# Altium schematic symbol library BeagleBone-AI_Library.SchLib: 164 symbols (part 9 of 14)
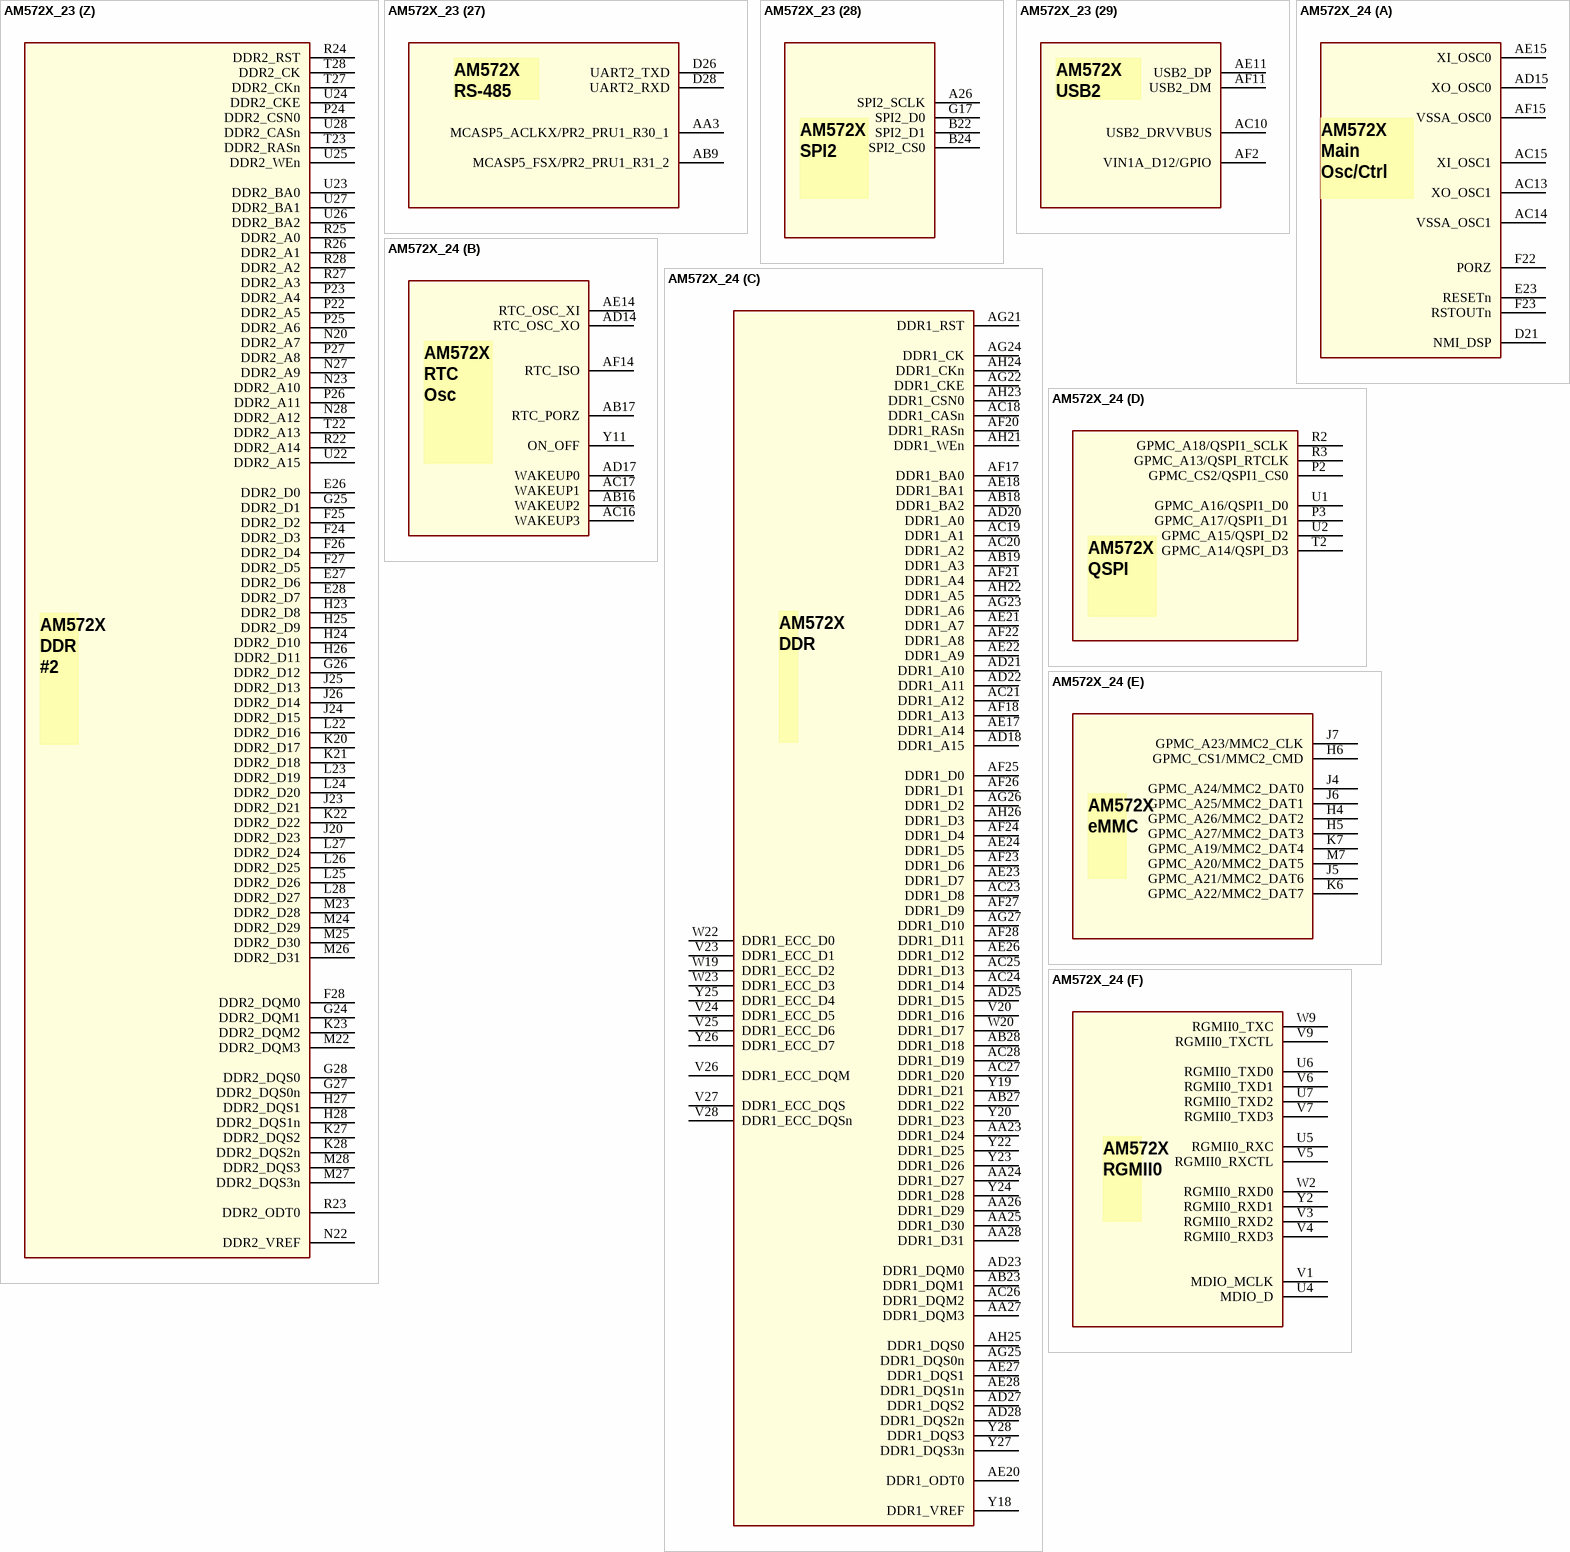
[diagram p169: symbols AM572X_23 to AM572X_24]

## AM572X_23
designator U?
Vendor: TI
footprint BGA23X23-760-117M
part A pins: AC13 XO_OSC1, AC14 VSSA_OSC1 (power), AC15 XI_OSC1, AD15 XO_OSC0, AE15 XI_OSC0, AF15 VSSA_OSC0 (power), D21 NMI_DSP, E23 RESETn, F22 PORZ, F23 RSTOUTn
part B pins: AB16 WAKEUP2, AB17 RTC_PORZ, AC16 WAKEUP3, AC17 WAKEUP1, AD14 RTC_OSC_XO, AD17 WAKEUP0, AE14 RTC_OSC_XI, AF14 RTC_ISO, Y11 ON_OFF
part C pins: AA23 DDR1_D24, AA24 DDR1_D27, AA25 DDR1_D30, AA26 DDR1_D29, AA27 DDR1_DQM3, AA28 DDR1_D31, AB18 DDR1_BA2, AB19 DDR1_A3, AB23 DDR1_DQM1, AB27 DDR1_D22, AB28 DDR1_D18, AC18 DDR1_CASn, AC19 DDR1_A1, AC20 DDR1_A2, AC21 DDR1_A12, AC23 DDR1_D8, AC24 DDR1_D14, AC25 DDR1_D13, AC26 DDR1_DQM2, AC27 DDR1_D20, AC28 DDR1_D19, AD18 DDR1_A15, AD20 DDR1_A0, AD21 DDR1_A10, AD22 DDR1_A11, AD23 DDR1_DQM0, AD25 DDR1_D15, AD27 DDR1_DQS2, AD28 DDR1_DQS2n, AE17 DDR1_A14, AE18 DDR1_BA1, AE20 DDR1_ODT0, AE21 DDR1_A7, AE22 DDR1_A9, AE23 DDR1_D7, AE24 DDR1_D5, AE26 DDR1_D12, AE27 DDR1_DQS1, AE28 DDR1_DQS1n, AF17 DDR1_BA0, AF18 DDR1_A13, AF20 DDR1_RASn, AF21 DDR1_A4, AF22 DDR1_A8, AF23 DDR1_D6, AF24 DDR1_D4, AF25 DDR1_D0, AF26 DDR1_D1, AF27 DDR1_D9, AF28 DDR1_D11, AG21 DDR1_RST, AG22 DDR1_CKE, AG23 DDR1_A6, AG24 DDR1_CK, AG25 DDR1_DQS0n, AG26 DDR1_D2, AG27 DDR1_D10, AH21 DDR1_WEn, AH22 DDR1_A5, AH23 DDR1_CSN0, AH24 DDR1_CKn, AH25 DDR1_DQS0, AH26 DDR1_D3, V20 DDR1_D16, V23 DDR1_ECC_D1, V24 DDR1_ECC_D5, V25 DDR1_ECC_D6, V26 DDR1_ECC_DQM, V27 DDR1_ECC_DQS, V28 DDR1_ECC_DQSn, W19 DDR1_ECC_D2, W20 DDR1_D17, W22 DDR1_ECC_D0, W23 DDR1_ECC_D3, Y18 DDR1_VREF, Y19 DDR1_D21, Y20 DDR1_D23, Y22 DDR1_D25, Y23 DDR1_D26, Y24 DDR1_D28, Y25 DDR1_ECC_D4, Y26 DDR1_ECC_D7, Y27 DDR1_DQS3n, Y28 DDR1_DQS3
part D pins: P2 GPMC_CS2/QSPI1_CS0, P3 GPMC_A17/QSPI1_D1, R2 GPMC_A18/QSPI1_SCLK, R3 GPMC_A13/QSPI_RTCLK, T2 GPMC_A14/QSPI_D3, U1 GPMC_A16/QSPI1_D0, U2 GPMC_A15/QSPI_D2
part E pins: H4 GPMC_A26/MMC2_DAT2, H5 GPMC_A27/MMC2_DAT3, H6 GPMC_CS1/MMC2_CMD, J4 GPMC_A24/MMC2_DAT0, J5 GPMC_A21/MMC2_DAT6, J6 GPMC_A25/MMC2_DAT1, J7 GPMC_A23/MMC2_CLK, K6 GPMC_A22/MMC2_DAT7, K7 GPMC_A19/MMC2_DAT4, M7 GPMC_A20/MMC2_DAT5
part F pins: U4 MDIO_D, U5 RGMII0_RXC, U6 RGMII0_TXD0, U7 RGMII0_TXD2, V1 MDIO_MCLK, V3 RGMII0_RXD2, V4 RGMII0_RXD3, V5 RGMII0_RXCTL, V6 RGMII0_TXD1, V7 RGMII0_TXD3, V9 RGMII0_TXCTL, W2 RGMII0_RXD0, W9 RGMII0_TXC, Y2 RGMII0_RXD1
part G pins: A3 VIN2A_D19/RGMII1_RXCTL, A4 VIN2A_D23/RGMII1_RXD0, B2 VIN2A_D16/RGMII1_TXD1, B3 VIN2A_D20/RGMII1_RXD3, B4 VIN2A_D21/RGMII1_RXD2, B5 VIN2A_D22/RGMII1_RXD1, C2 VIN2A_D13/RGMII1_TXCTL, C3 VIN2A_D14/RGMII1_TXD3, C4 VIN2A_D15/RGMII1_TXD2, C5 VIN2A_D18/RGMII1_RXC, D5 VIN2A_D12/RGMII1_TXC, D6 VIN2A_D17/RGMII1_TXD0
part H pins: AG16 HDMI1_CLOCKX, AG17 HDMI1_DATA0X, AG18 HDMI1_DATA1X, AG19 HDMI1_DATA2X, AH16 HDMI1_CLOCKY, AH17 HDMI1_DATA0Y, AH18 HDMI1_DATA1Y, AH19 HDMI1_DATA2Y, B20 SPI1_CS3/HDMI_CEC, B21 SPI1_CS2/HDMI_HPD, C25 I2C2_SDA/HDMI1_DDC_SCL, F17 I2C2_SCL/HDMI1_DDC_SDA
part I pins: C28 UART2_RTSn/UART3_TXD, D27 UART2_CTSn/UART3_RXD
part J pins: F2 VIN2A_D0/PR1_UART0_RXD, F3 VIN2A_D1/PR1_UART0_TXD, F4 VIN2A_D5/PR1_PRU1_R30_2, U3 RMII50MHZCLK/PR2_GPIO
part K pins: V2 UART3_RXD/PR1_MII0_RXDV, Y1 UART3_TXD/PR1_MII0_MR0CLK
part L pins: C1 VIN2A_D6/PR1_MII_MT1_CLK, D3 VIN2A_D10/PR1_MDIO_MDCLK, E4 VIN2A_D7/PR1_MII1_TXEN, E6 VIN2A_D9/PR1_MII1_TXD2, F5 VIN2A_D8/PR1_MII1_TXD3, F6 VIN2A_D11/PR1_MDIO_DATA
part M pins: A11 MCASP1_AXR9/PR2_MII0_TXD3, A12 MCASP1_AXR11/PR2_MII0_TXD1, A13 MCASP1_AXR13/PR2_MII_MR0_CLK, A16 MCASP2_AXR3/PR2_MII0_RXLINK, A18 MCASP2_FSX/PR2_MII0_RXD1, A19 MCASP2_ACLKX/PR2_MII0_RXD2, B12 MCASP1_AXR8/PR2_MII0_TXEN, B13 MCASP1_AXR10/PR2_MII0_TXD2, B18 MCASP3_ACLKX/PR2_MII0_CRS, C14 MCASP1_ACLKX/PR2_MDIO_MDCLK, C15 MCASP2_AXR2/PR2_MII0_RXD0, D14 MCASP1_FSX/PR2_MDIO_DATA, E14 MCASP1_AXR12/PR2_MII0_TXD0, F12 MCASP1_AXR1/PR2_MII_MT0_CLK, F14 MCASP1_AXR15/PR2_MII0_RXD3, F15 MCASP3_FSX/PR2_MII0_COL, G12 MCASP1_AXR0/PR2_MII0_RXER, G14 MCASP1_AXR14/PR2_MII0_RXDV
part N pins: AB4 GPIO6_11/PR2_MII1_TXEN, AB5 MMC3_DAT7/PR2_MII1_RXD0, AB8 MMC3_DAT6/PR2_MII1_RXD1, AC3 MMC3_DAT3/PR2_MII1_RXDV, AC4 MMC3_CMD/PR2_MII1_TXD2, AC5 GPIO6_10/PR2_MII_MT1_CLK, AC6 MMC3_DAT1/PR2_MII1_TXD0, AC7 MMC3_DAT0/PR2_MII1_TXD1, AC8 MMC3_DAT4/PR2_MII1_RXD3, AC9 MMC3_DAT2/PR2_MII_MR1_CLK, AD4 MMC3_CLK/PR2_MII1_TXD3, AD6 MMC3_DAT5/PR2_MII1_RXD2, B19 MCASP3_AXR0/PR2_MII1_RXER, C17 MCASP3_AXR1/PR2_MII1_RXLINK, D18 XREF_CLK0/PR2_MII1_COL, E17 XREF_CLK1/PR2_MII1_CRS
part O pins: AA5 MMC1_DAT2, AA6 MMC1_DAT0, W6 MMC1_CLK, W7 MMC1_SDCD, Y3 MMC1_DAT3, Y4 MMC1_DAT1, Y6 MMC1_CMD, Y9 MMC1_SDWP
part P pins: AG13 PCIE_RXN0, AG14 PCIE_TXN0, AG15 LJCB_CLKP, AH13 PCIE_RXP0, AH14 PCIE_TXP0, AH15 LJCB_CLKN
part Q pins: AB10 USB1_DRVVBUS, AC11 USB_TXN0, AC12 USB1_DM, AD11 USB_TXP0, AD12 USB1_DP, AE12 USB_RXP0, AF12 USB_RXN0
part R pins: C20 I2C1_SCL, C21 I2C1_SDA
part S pins: D20 TRSTn, D23 TDI, D24 EMU1, E18 RTCK, E20 TCK, F18 TMS, F19 TDO, G21 EMU0
part T pins: A5 VOUT1_D12, A7 VOUT1_D18, A8 VOUT1_D19, A9 VOUT1_D21, A10 VOUT1_D23, B7 VOUT1_D16, B8 VOUT1_D17, B9 VOUT1_D22, B10 VOUT1_DE, C6 VOUT1_D13, C7 VOUT1_D15, C8 VOUT1_D14, C9 VOUT1_D20, C11 VOUT1_HSYNC, D1 VIN2A_D2/eCAP1_IN_PWM1, D7 VOUT1_D10, D8 VOUT1_D11, D9 VOUT1_D9, D11 VOUT1_CLK, E7 VOUT1_D7, E8 VOUT1_D8, E9 VOUT1_D4, E11 VOUT1_VSYNC, F8 VOUT1_D6, F9 VOUT1_D5, F10 VOUT1_D2, F11 VOUT1_D0, G10 VOUT1_D1, G11 VOUT1_D3
part U pins: A21 MCASP4_FSX/SPI3_D1, AF4 VIN1A_D15/GPIO, C18 MCASP4_ACLKX/SPI3_SCLK, D17 MCASP4_AXR1/SPI3_CS0
part V pins: A15 MCASP2_AXR1, A17 MCASP2_AXR7, A20 MCASP2_FSR, A22 SPI1_CS1, A24 SPI1_CS0, A25 SPI1_SCLK, AA1 MLBP_DAT_P, AA2 MLBP_DAT_N, AA4 MCASP5_AXR1/GPIO, AB1 MLBP_CLK_P, AB2 MLBP_CLK_N, AB3 MCASP5_AXR0/GPIO, AC1 MLBP_SIG_P, AC2 MLBP_SIG_N, AD2 VIN1A_D22, AD3 VIN1A_D23, AD8 VIN1A_D1, AD9 VIN1A_DE0, AE1 VIN1A_D19, AE2 VIN1A_D20, AE3 VIN1A_D17, AE5 VIN1A_D18, AE6 VIN1A_D21, AE8 VIN1A_D0, AE9 VIN1A_HSYNC0, AF1 VIN1A_D16, AF3 VIN1A_D14, AF6 VIN1A_D13, AF8 VIN1A_VSYNC0, AF9 VIN1A_FLD0, AG2 VIN1A_D9, AG3 VIN1A_D10, AG4 VIN1A_D8, AG5 VIN1A_D11, AG6 VIN1A_D6, AG7 VIN1A_D2, AG8 VIN1A_CLK0, AG9 SATA1_RXP0, AG10 SATA1_TXN0, AG11 PCIE_RXN1, AG12 PCIE_TXN1, AH3 VIN1A_D4, AH4 VIN1A_D7, AH5 VIN1A_D5, AH6 VIN1A_D3, AH7 VIN1B_CLK1, AH9 SATA1_RXN0, AH10 SATA1_TXP0, AH11 PCIE_RXP1, AH12 PCIE_TXP1, B11 VOUT1_FLD, B14 MCASP1_ACLKR, B15 MCASP2_AXR0, B16 MCASP2_AXR5, B17 MCASP2_AXR6, B25 SPI1_D0, B26 XREF_CLK2, B27 UART1_RXD/GPIO, C12 MCASP1_AXR6, C26 UART1_TXD/GPIO, C27 UART1_RTSn/GPIO, D2 VIN2A_D4, D12 MCASP1_AXR7, D15 MCASP2_AXR4, E1 VIN2A_CLK0, E2 VIN2A_D3, E12 MCASP1_AXR4, E15 MCASP2_ACLKR, E21 GPIO6_14, E25 UART1_CTSn/GPIO, F13 MCASP1_AXR5, F16 SPI1_D1, F20 GPIO6_15, F21 GPIO6_16, G1 VIN2A_HSYNC0, G2 VIN2A_DE0, G6 VIN2A_VSYNC0, G13 MCASP1_AXR2, G16 MCASP4_AXR0/SPI3_D0, H1 GPMC_AD12, H2 GPMC_AD14, H3 GPMC_AD15, H7 VIN2A_FLD0, J1 GPMC_AD10, J2 GPMC_AD11, J3 GPMC_AD13, J11 MCASP1_AXR3, J14 MCASP1_FSR, K2 GPMC_AD9, L1 GPMC_AD8, L2 GPMC_AD7/GPIO, L3 GPMC_AD6/GPIO, L4 GPMC_AD5/GPIO, L5 GPMC_AD2/GPIO, L6 GPMC_AD4/GPIO, M1 GPMC_AD3/GPIO, M2 GPMC_AD1/GPIO, M3 GPMC_WEN, M4 GPMC_BEN1, M5 GPMC_OEN_REN, M6 GPMC_AD0/GPIO, N1 GPMC_ADVN_ALE, N2 GPMC_WAIT0, N6 GPMC_BEN0, P1 GPMC_CS3/GPIO, P7 GPMC_CLK, T1 GPMC_CS0
part W pins: G19 DCAN1_RX, G20 DCAN1_TX
part X pins: C23 XREF_CLK3/CLKOUT3, N7 GPMC_A8/VIN4B_HSYNC1, N9 GPMC_A10/VIN4B_CLK1, P4 GPMC_A12/VIN4B_FLD1, P5 GPMC_A7/VIN4B_D7, P6 GPMC_A4/VIN4B_D4, P9 GPMC_A11/VIN4B_DE1, R4 GPMC_A9/VIN4B_VSYNC1, R5 GPMC_A6/VIN4B_D6, R6 GPMC_A0/VIN4B_D0, R9 GPMC_A5/VIN4B_D5, T6 GPMC_A2/VIN4B_D2, T7 GPMC_A3/VIN4B_D3, T9 GPMC_A1/VIN4B_D1
part Y pins: A1 VSS (power), A2 VSS (power), A6 VSS (power), A14 VSS (power), A23 VSS (power), A27 RSVA27, A28 VSS (power), AA7 VDDS_MLBP (power), AA8 VSS (power), AA9 VSS (power), AA10 VSS (power), AA11 VSSA_USB (power), AA12 VDDA33V_USB1 (power), AA13 VDDA_USB1 (power), AA14 VSS (power), AA15 VSS (power), AA16 VDDA_PCIE1 (power), AA17 VDDA_PCIE0 (power), AA18 VDDS18V_DDR1 (power), AA19 VDDS18V_DDR1 (power), AA20 VSS (power), AA21 VDDS_DDR1 (power), AA22 VDDS_DDR1 (power), AB6 VDDSHV7 (power), AB7 VDDSHV7 (power), AB11 VSSA_USB (power), AB12 VDDA_USB2 (power), AB13 VDDA_RTC (power), AB14 VSS (power), AB15 VDD_RTC (power), AB20 VSS (power), AB21 VDDS_DDR1 (power), AB22 VDDS_DDR1 (power), AB24 VDDS_DDR1 (power), AB25 VDDS_DDR1 (power), AC22 VDDS_DDR1 (power), AD1 VSS (power), AD5 VDDSHV6 (power), AD7 VDDSHV6 (power), AD10 VSSA_USB3 (power), AD13 VSSA_PCIE (power), AD16 VDDA_OSC (power), AD19 VSSA_HDMI (power), AD24 VSS (power), AD26 VDDS_DDR1 (power), AE7 VDDSHV6 (power), AE10 VSSA_SATA (power), AE13 VSSA_PCIE (power), AE16 VDDA_OSC (power), AE19 VSSA_HDMI (power), AF5 VDDSHV6 (power), AG1 VSS (power), AG20 VDDS_DDR1 (power), AG28 VDDS_DDR1 (power), AH1 VSS (power), AH2 VSS (power), AH8 VSS (power), AH20 VSS (power), AH27 VDDS_DDR1 (power), AH28 VSS (power), B1 VSS (power), B6 VDDSHV2 (power), B23 VDDSHV3 (power), B28 RSVB28, C24 VDDSHV4 (power), D10 VDDSHV2 (power), D13 VSS (power), D16 VDDSHV3 (power), D19 VSS (power), D22 VDDSHV3 (power), E3 VDDSHV1 (power), E5 VDDSHV1 (power), E10 VDDSHV2 (power), E13 VSS (power), E16 VDDSHV3 (power), E19 VSS (power), E22 VDDSHV3 (power), E24 VDDS_DDR2 (power), F1 VSS (power), F7 VSS (power), G4 VDDSHV1 (power), G5 VDDSHV1 (power), G7 VSS (power), G8 VSS (power), G9 VSS (power), G15 VDDSHV3 (power), G18 VDDS18V (power), G22 VDDS_DDR2 (power), G23 VDDS_DDR2 (power), H8 VDDSHV1 (power), H9 VDDSHV1 (power), H10 VDDSHV2 (power), H11 VDDSHV2 (power), H12 VSS (power), H13 VDD (power), H14 VDD (power), H15 VDDSHV3 (power), H16 VDDSHV3 (power), H17 VDDS18V (power), H18 VDDSHV3 (power), H19 VDDSHV3 (power), H20 VDDS_DDR2 (power), H21 VDDS_DDR2 (power), H22 VDDS_DDR2 (power), J8 VDDSHV11 (power), J9 CAP_VDDRAM_DSPEVE2, J10 CAP_VDDRAM_DSPEVE1, J12 VSS (power), J13 VDD_DSPEVE (power), J15 VSS (power), J16 CAP_VBBLDO_MPU, J17 VDD (power), J18 VDD (power), J19 CAP_VDDRAM_CORE2, J21 VDDS18V_DDR2 (power), J22 VDDS18V_DDR2 (power), J27 VDDS_DDR2 (power), J28 VSS (power), K1 VSS (power), K4 VSS (power), K5 VSS (power), K8 VDDSHV11 (power), K9 CAP_VBBLDO_DSPEVE, K10 VDD_DSPEVE (power), K11 VDD_DSPEVE (power), K12 VDD_DSPEVE (power), K13 VDD_DSPEVE (power), K14 RSVK14, K15 VSS (power), K16 CAP_VDDRAM_MPU1, K17 VDD_MPU (power), K18 VDD_MPU (power), K19 CAP_VDDRAM_MPU2, K24 VSS (power), K25 VSS (power), L7 VDD (power), L8 VDD (power), L9 CAP_VDDRAM_CORE1, L10 VDD_DSPEVE (power), L11 VDD_DSPEVE (power), L12 VDD_DSPEVE (power), L13 VSS (power), L14 VSS (power), L15 VDD_MPU (power), L16 VDD_MPU (power), L17 VDD_MPU (power), L18 VDD_MPU (power), L19 VDD_MPU (power), L20 VDDS_DDR2 (power), L21 VDDS_DDR2 (power), M8 VDDS18V (power), M9 VDDS18V (power), M10 VDD_DSPEVE (power), M11 VDD_DSPEVE (power), M12 VDD_DSPEVE (power), M13 VDD_DSPEVE (power), M14 VDDA_ABE_PER (power), M15 VDD_MPU (power), M16 VDD_MPU (power), M17 VDD_MPU (power), M18 VDD_MPU (power), M19 VSS (power), M20 VDDS_DDR2 (power), M21 VDDS_DDR2 (power), N4 VDDSHV10 (power), N5 VDDSHV10 (power), N8 VDDS18V (power), N10 VDD (power), N11 VDDA_DEBUG (power), N12 VDDA_DSP_EVE (power), N13 VDD (power), N14 VSS (power), N15 VSS (power), N16 VDDA_MPU (power), N17 VDD_MPU (power), N18 VDD_MPU (power), N19 VSS (power), N21 VDDS18V_DDR2 (power), N24 VSS (power), N25 VSS (power), P8 VDDS18V (power), P10 VDDSHV10 (power), P11 VDD (power), P12 VDD (power), P13 VDD (power), P14 VDDA_VIDEO (power), P15 VDDA_GMAC_CORE (power), P16 VDDA_DDR (power), P17 VDD_MPU (power), P18 VDD_MPU (power), P19 CAP_VDDRAM_CORE4, P20 VDDS18V_DDR2 (power), P21 VDDS18V_DDR2 (power), P28 VSS (power), R1 VSS (power), R7 VDDSHV10 (power), R8 VDDS18V (power), R10 VDDSHV10 (power), R11 VDD (power), R12 VSS (power), R13 VSS (power), R14 VDDA_GPU (power), R15 VSS (power), R16 VDD (power), R17 VDDA_IVA (power), R18 VDD_MPU (power), R19 VDD (power), R20 CAP_VBBLDO_IVA, R21 VSS (power), T4 VDDSHV10 (power), T5 VDDSHV10 (power), T8 VDDS18V (power), T10 VSS (power), T11 VSS (power), T12 VSS (power), T13 VDD (power), T14 VSS (power), T15 VSS (power), T16 VDD (power), T17 VSS (power), T18 VSS (power), T19 VDD (power), T20 CAP_VDDRAM_IVA, T21 VSS (power), T24 VDDS_DDR2 (power), T25 VDDS_DDR2 (power), U8 VDD (power), U9 VDD (power), U10 VDDSHV9 (power), U11 VDD_GPU (power), U12 VDD_GPU (power), U13 VDD (power), U14 VSSA_VIDEO (power), U15 VSS (power), U16 VDD (power), U17 VSS (power), U18 VDD_IVA (power), U19 VDD_IVA (power), U20 VSS (power), U21 VSS (power), V8 VDD (power), V10 VDD_GPU (power), V11 VDD_GPU (power), V12 VDDSHV5 (power), V13 VDDA_SATA (power), V14 VDD_GPU (power), V15 VSS (power), V16 VDD (power), V17 VSS (power), V18 VDD_IVA (power), V19 VDD_IVA (power), V21 VDDS18V (power), V22 VDDS18V (power), W1 VSS (power), W4 VDDSHV9 (power), W5 VDDSHV9 (power), W8 VDDSHV8 (power), W10 VDD_GPU (power), W11 VDD_GPU (power), W12 VDDA_USB3 (power), W13 VDD_GPU (power), W14 VDDA_PCIE (power), W15 VSS (power), W16 VDDS_DDR1 (power), W17 VDDS18V (power), W18 VDDS18V (power), W21 VDDS18V_DDR1 (power), W24 VSS (power), W25 VSS (power), W27 VDDS_DDR1 (power), W28 VSS (power), Y5 RSVY5, Y7 VDDS_MLBP (power), Y8 VDDSHV8 (power), Y10 RSVY10, Y12 VDDA33V_USB2 (power), Y13 CAP_VDDRAM_GPU, Y14 CAP_VBBLDO_GPU, Y15 CAP_VDDRAM_CORE3, Y16 CAP_VDDRAM_CORE5, Y17 VDDA_HDMI (power), Y21 VDDS18V_DDR1 (power)
part Z pins: E26 DDR2_D0, E27 DDR2_D6, E28 DDR2_D7, F24 DDR2_D3, F25 DDR2_D2, F26 DDR2_D4, F27 DDR2_D5, F28 DDR2_DQM0, G24 DDR2_DQM1, G25 DDR2_D1, G26 DDR2_D12, G27 DDR2_DQS0n, G28 DDR2_DQS0, H23 DDR2_D8, H24 DDR2_D10, H25 DDR2_D9, H26 DDR2_D11, H27 DDR2_DQS1, H28 DDR2_DQS1n, J20 DDR2_D23, J23 DDR2_D21, J24 DDR2_D15, J25 DDR2_D13, J26 DDR2_D14, K20 DDR2_D17, K21 DDR2_D18, K22 DDR2_D22, K23 DDR2_DQM2, K27 DDR2_DQS2, K28 DDR2_DQS2n, L22 DDR2_D16, L23 DDR2_D19, L24 DDR2_D20, L25 DDR2_D26, L26 DDR2_D25, L27 DDR2_D24, L28 DDR2_D27, M22 DDR2_DQM3, M23 DDR2_D28, M24 DDR2_D29, M25 DDR2_D30, M26 DDR2_D31, M27 DDR2_DQS3n, M28 DDR2_DQS3, N20 DDR2_A7, N22 DDR2_VREF, N23 DDR2_A10, N27 DDR2_A9, N28 DDR2_A12, P22 DDR2_A5, P23 DDR2_A4, P24 DDR2_CSN0, P25 DDR2_A6, P26 DDR2_A11, P27 DDR2_A8, R22 DDR2_A14, R23 DDR2_ODT0, R24 DDR2_RST, R25 DDR2_A0, R26 DDR2_A1, R27 DDR2_A3, R28 DDR2_A2, T22 DDR2_A13, T23 DDR2_RASn, T27 DDR2_CKn, T28 DDR2_CK, U22 DDR2_A15, U23 DDR2_BA0, U24 DDR2_CKE, U25 DDR2_WEn, U26 DDR2_BA2, U27 DDR2_BA1, U28 DDR2_CASn
part 27 pins: AA3 MCASP5_ACLKX/PR2_PRU1_R30_1, AB9 MCASP5_FSX/PR2_PRU1_R31_2, D26 UART2_TXD, D28 UART2_RXD
part 28 pins: A26 SPI2_SCLK, B22 SPI2_D1, B24 SPI2_CS0, G17 SPI2_D0
part 29 pins: AC10 USB2_DRVVBUS, AE11 USB2_DP, AF2 VIN1A_D12/GPIO, AF11 USB2_DM
part A text: AM572X / Main / Osc/Ctrl /
part B text: AM572X RTC / Osc /
part C text: AM572X DDR /
part D text: AM572X / QSPI /
part E text: AM572X / eMMC /
part F text: AM572X / RGMII0 /
part G text: AM572X / RGMII1 /
part H text: AM572X / HDMI /
part I text: AM572X / UART3 /
part J text: AM572X / PR1_UART0 / ProfiBus /
part K text: AM572X / PRU1_MII0 /
part L text: AM572X / PRU1_MII1 /
part M text: AM572X / PRU2_MII0 /
part N text: AM572X / PRU2_MII1 /
part O text: AM572X / SD/MMC1 /
part P text: AM572X / PCIE /
part Q text: AM572X / USB1 /
part R text: AM572X / I2C1 /
part S text: AM572X / JTAG /
part T text: AM57XX / LCD /
part U text: AM572X / SPI3 /
part V text: AM572X GPIO & Unused / Pins /
part W text: AM572X / DCAN / #1 /
part X text: AM572X / Camera #1 /
part Y text: AM572X Power /
part Z text: AM572X DDR / #2 /
part 27 text: AM572X / RS-485 /
part 28 text: AM572X / SPI2 /
part 29 text: AM572X / USB2 /

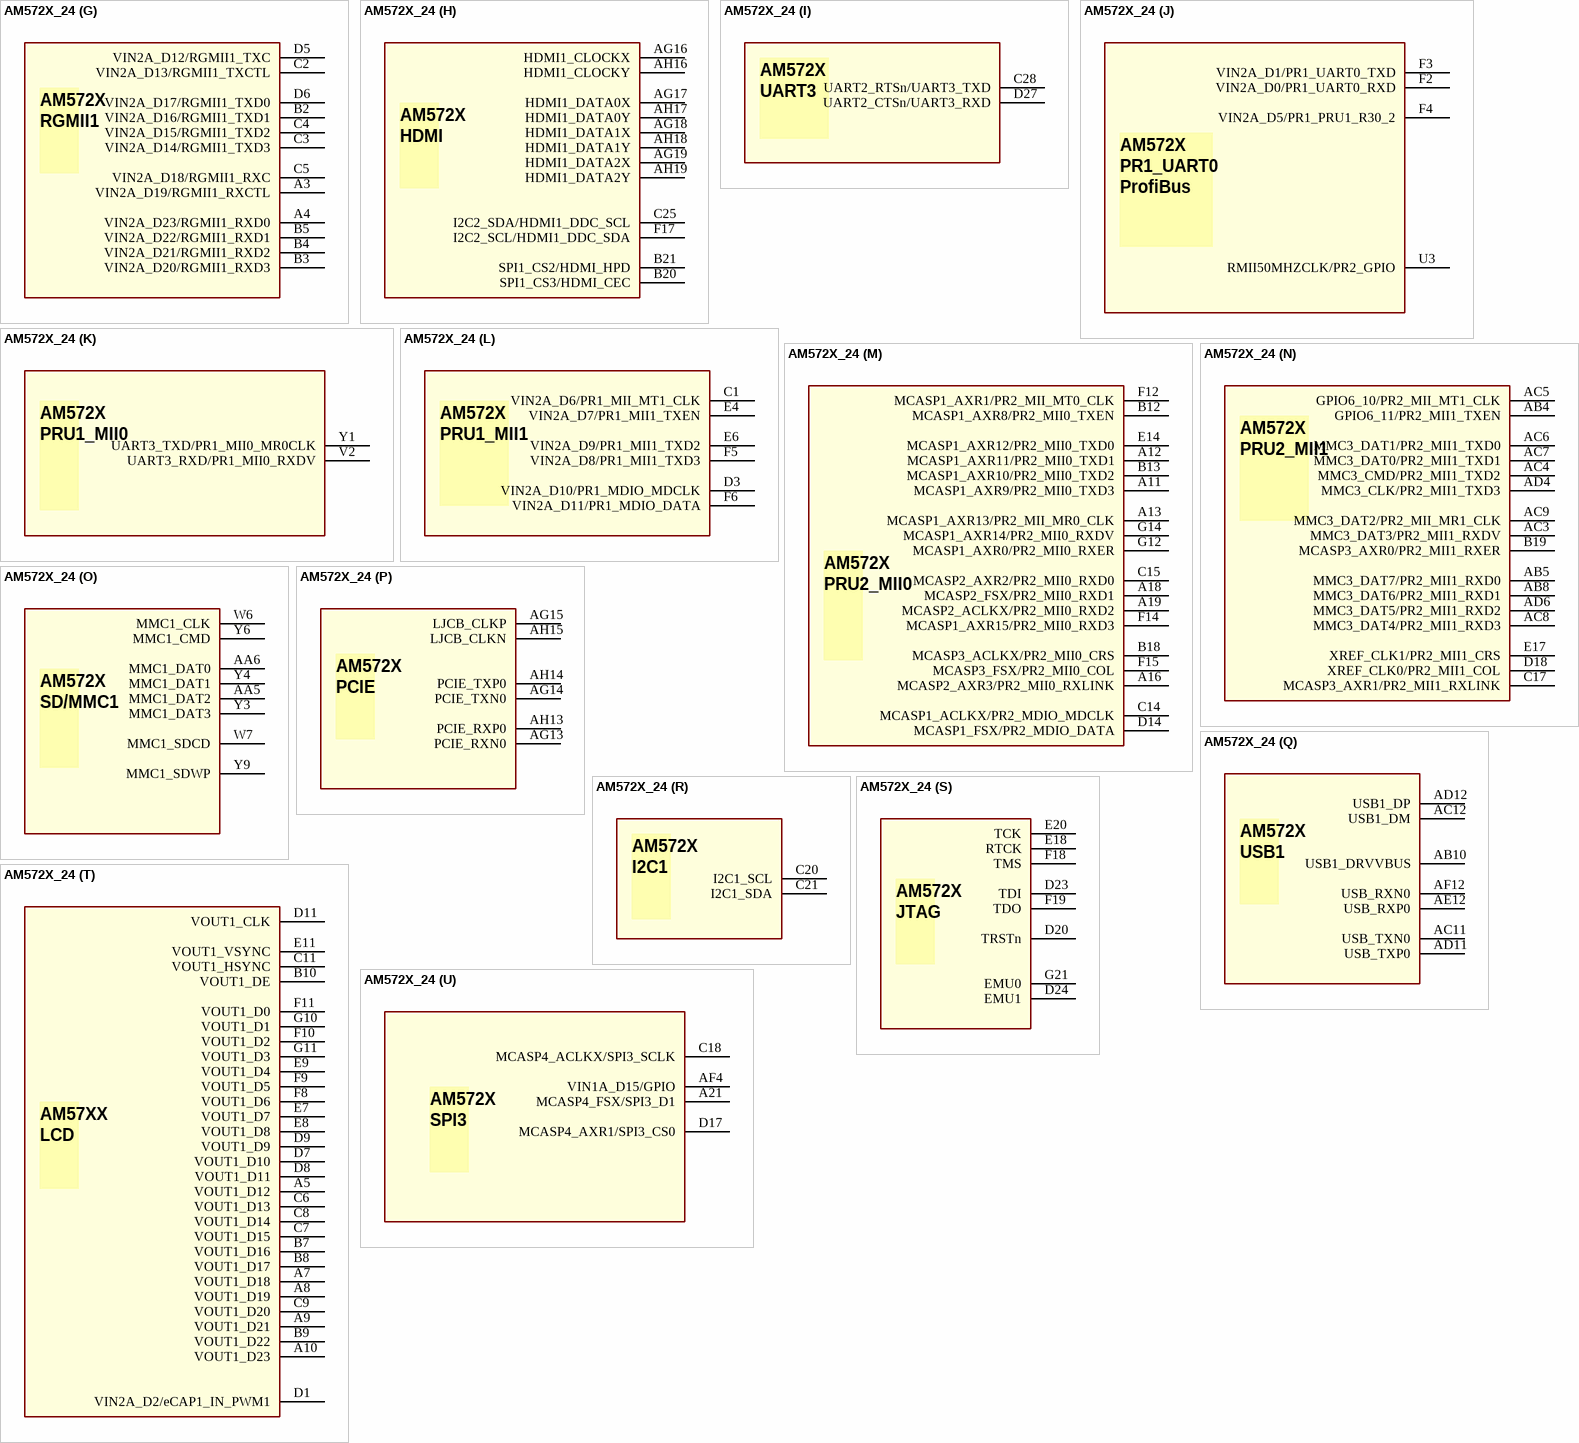
[diagram p100: symbol AM572X_24]

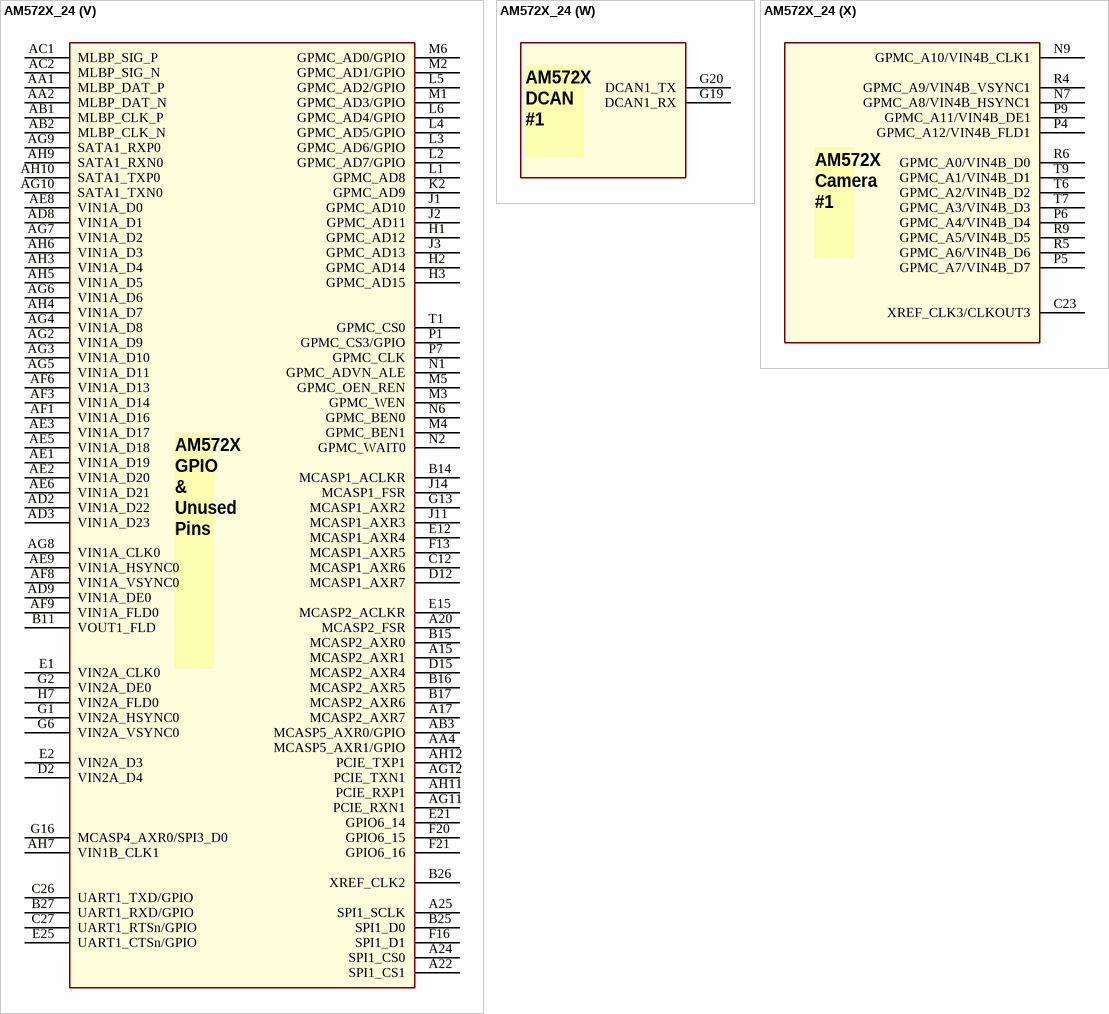
[diagram p101: symbol AM572X_24]

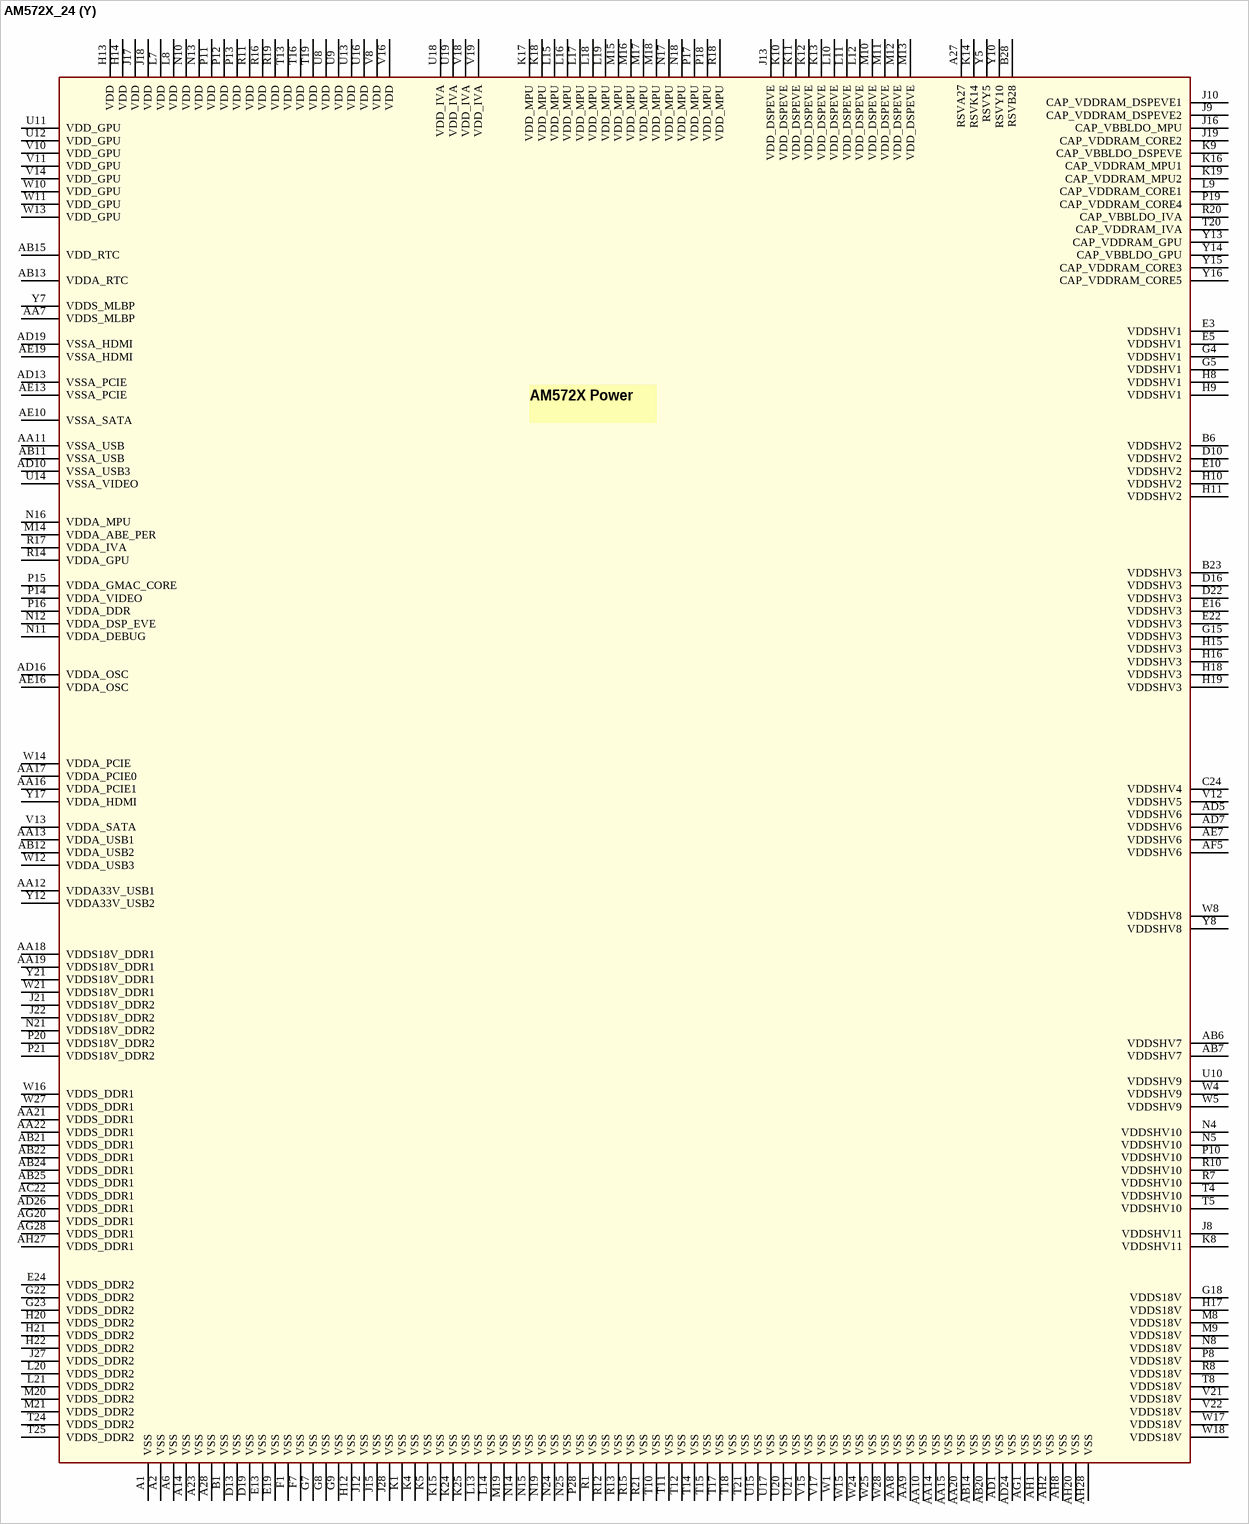
[diagram p102: symbol AM572X_24]

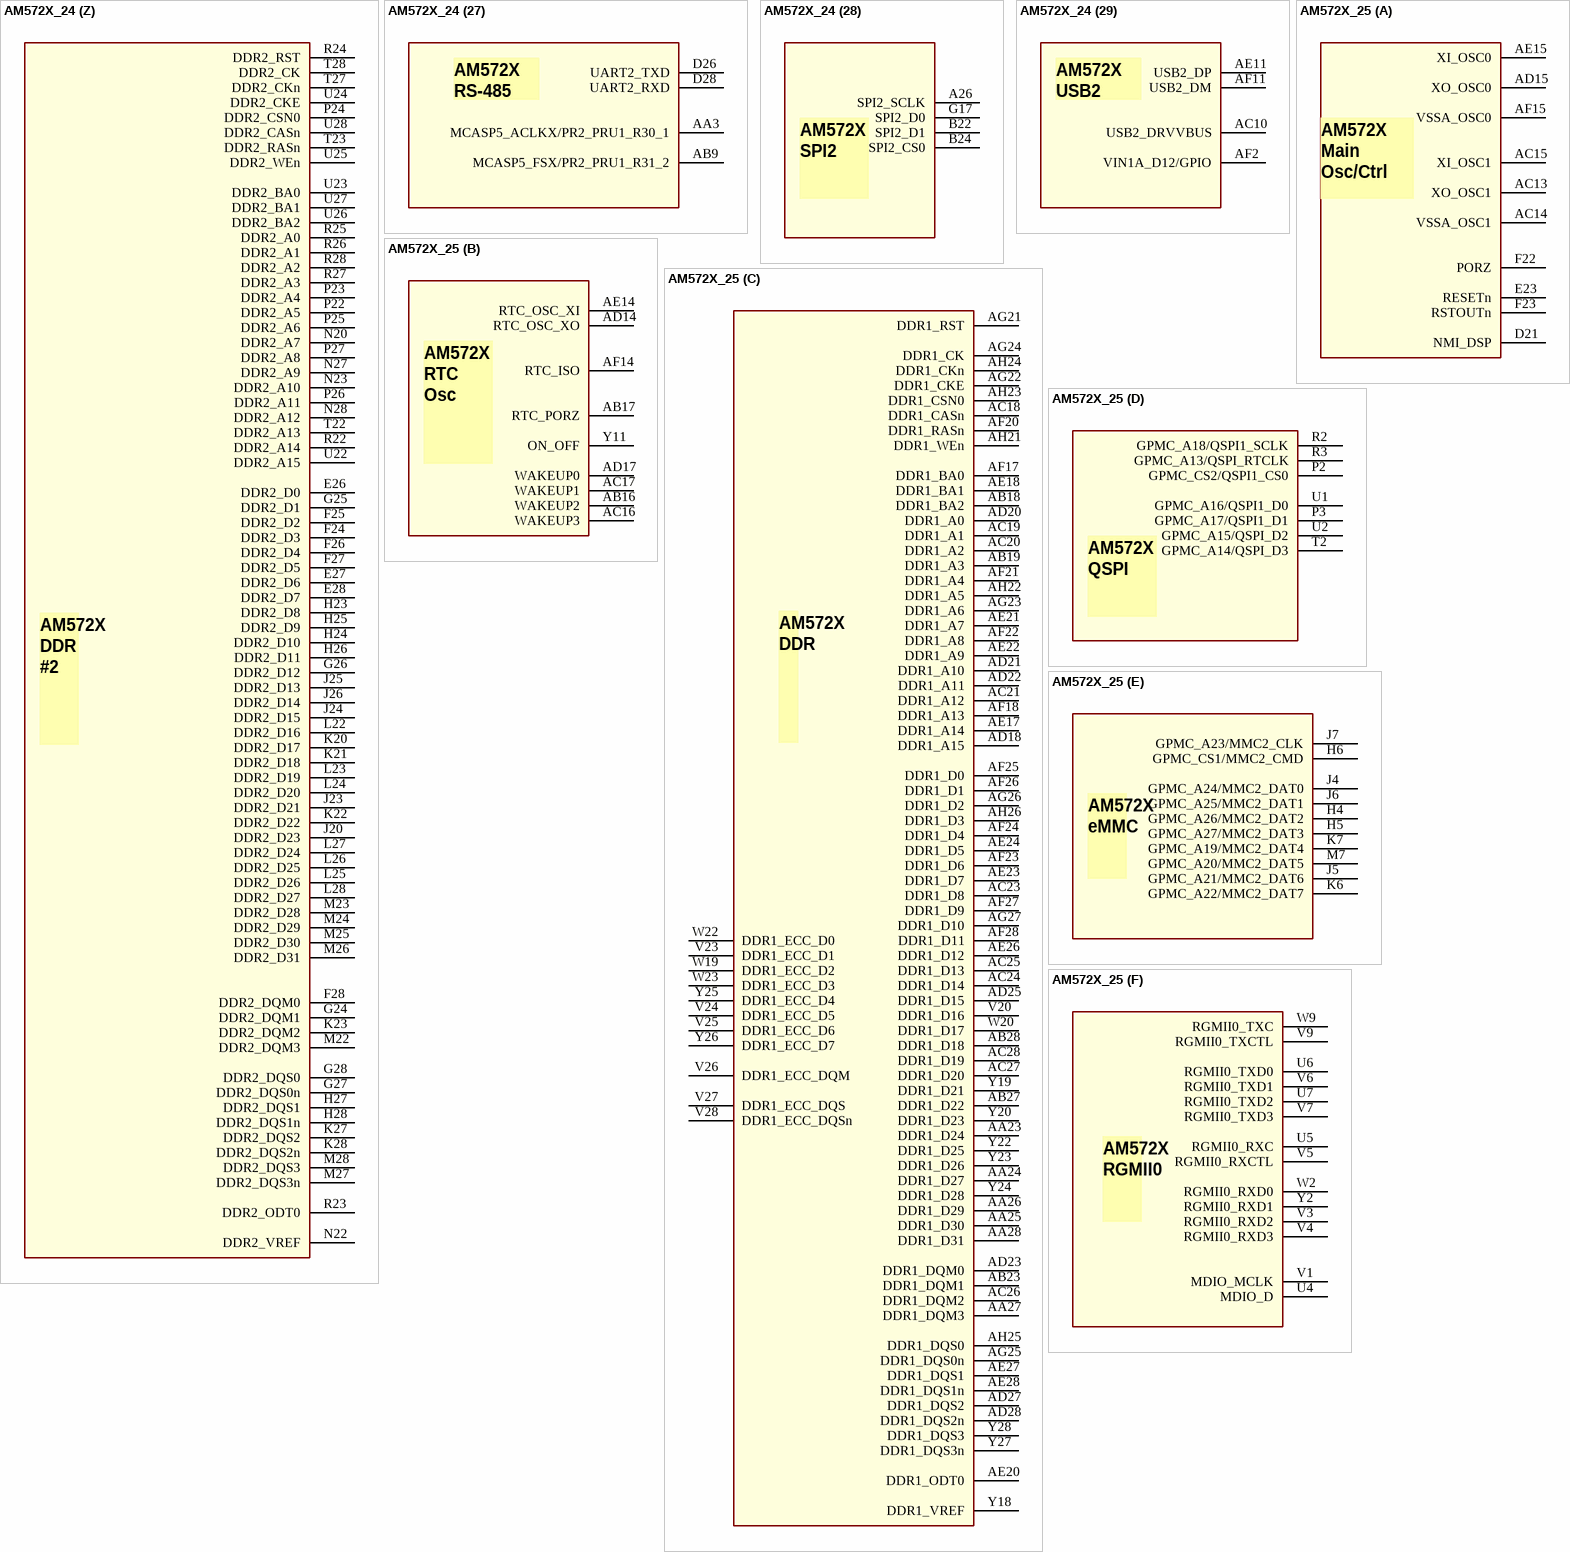
[diagram p103: symbols AM572X_24 to AM572X_25]

## AM572X_24
designator U?
Vendor: TI
footprint BGA23X23-760-117M
part A pins: AC13 XO_OSC1, AC14 VSSA_OSC1 (power), AC15 XI_OSC1, AD15 XO_OSC0, AE15 XI_OSC0, AF15 VSSA_OSC0 (power), D21 NMI_DSP, E23 RESETn, F22 PORZ, F23 RSTOUTn
part B pins: AB16 WAKEUP2, AB17 RTC_PORZ, AC16 WAKEUP3, AC17 WAKEUP1, AD14 RTC_OSC_XO, AD17 WAKEUP0, AE14 RTC_OSC_XI, AF14 RTC_ISO, Y11 ON_OFF
part C pins: AA23 DDR1_D24, AA24 DDR1_D27, AA25 DDR1_D30, AA26 DDR1_D29, AA27 DDR1_DQM3, AA28 DDR1_D31, AB18 DDR1_BA2, AB19 DDR1_A3, AB23 DDR1_DQM1, AB27 DDR1_D22, AB28 DDR1_D18, AC18 DDR1_CASn, AC19 DDR1_A1, AC20 DDR1_A2, AC21 DDR1_A12, AC23 DDR1_D8, AC24 DDR1_D14, AC25 DDR1_D13, AC26 DDR1_DQM2, AC27 DDR1_D20, AC28 DDR1_D19, AD18 DDR1_A15, AD20 DDR1_A0, AD21 DDR1_A10, AD22 DDR1_A11, AD23 DDR1_DQM0, AD25 DDR1_D15, AD27 DDR1_DQS2, AD28 DDR1_DQS2n, AE17 DDR1_A14, AE18 DDR1_BA1, AE20 DDR1_ODT0, AE21 DDR1_A7, AE22 DDR1_A9, AE23 DDR1_D7, AE24 DDR1_D5, AE26 DDR1_D12, AE27 DDR1_DQS1, AE28 DDR1_DQS1n, AF17 DDR1_BA0, AF18 DDR1_A13, AF20 DDR1_RASn, AF21 DDR1_A4, AF22 DDR1_A8, AF23 DDR1_D6, AF24 DDR1_D4, AF25 DDR1_D0, AF26 DDR1_D1, AF27 DDR1_D9, AF28 DDR1_D11, AG21 DDR1_RST, AG22 DDR1_CKE, AG23 DDR1_A6, AG24 DDR1_CK, AG25 DDR1_DQS0n, AG26 DDR1_D2, AG27 DDR1_D10, AH21 DDR1_WEn, AH22 DDR1_A5, AH23 DDR1_CSN0, AH24 DDR1_CKn, AH25 DDR1_DQS0, AH26 DDR1_D3, V20 DDR1_D16, V23 DDR1_ECC_D1, V24 DDR1_ECC_D5, V25 DDR1_ECC_D6, V26 DDR1_ECC_DQM, V27 DDR1_ECC_DQS, V28 DDR1_ECC_DQSn, W19 DDR1_ECC_D2, W20 DDR1_D17, W22 DDR1_ECC_D0, W23 DDR1_ECC_D3, Y18 DDR1_VREF, Y19 DDR1_D21, Y20 DDR1_D23, Y22 DDR1_D25, Y23 DDR1_D26, Y24 DDR1_D28, Y25 DDR1_ECC_D4, Y26 DDR1_ECC_D7, Y27 DDR1_DQS3n, Y28 DDR1_DQS3
part D pins: P2 GPMC_CS2/QSPI1_CS0, P3 GPMC_A17/QSPI1_D1, R2 GPMC_A18/QSPI1_SCLK, R3 GPMC_A13/QSPI_RTCLK, T2 GPMC_A14/QSPI_D3, U1 GPMC_A16/QSPI1_D0, U2 GPMC_A15/QSPI_D2
part E pins: H4 GPMC_A26/MMC2_DAT2, H5 GPMC_A27/MMC2_DAT3, H6 GPMC_CS1/MMC2_CMD, J4 GPMC_A24/MMC2_DAT0, J5 GPMC_A21/MMC2_DAT6, J6 GPMC_A25/MMC2_DAT1, J7 GPMC_A23/MMC2_CLK, K6 GPMC_A22/MMC2_DAT7, K7 GPMC_A19/MMC2_DAT4, M7 GPMC_A20/MMC2_DAT5
part F pins: U4 MDIO_D, U5 RGMII0_RXC, U6 RGMII0_TXD0, U7 RGMII0_TXD2, V1 MDIO_MCLK, V3 RGMII0_RXD2, V4 RGMII0_RXD3, V5 RGMII0_RXCTL, V6 RGMII0_TXD1, V7 RGMII0_TXD3, V9 RGMII0_TXCTL, W2 RGMII0_RXD0, W9 RGMII0_TXC, Y2 RGMII0_RXD1
part G pins: A3 VIN2A_D19/RGMII1_RXCTL, A4 VIN2A_D23/RGMII1_RXD0, B2 VIN2A_D16/RGMII1_TXD1, B3 VIN2A_D20/RGMII1_RXD3, B4 VIN2A_D21/RGMII1_RXD2, B5 VIN2A_D22/RGMII1_RXD1, C2 VIN2A_D13/RGMII1_TXCTL, C3 VIN2A_D14/RGMII1_TXD3, C4 VIN2A_D15/RGMII1_TXD2, C5 VIN2A_D18/RGMII1_RXC, D5 VIN2A_D12/RGMII1_TXC, D6 VIN2A_D17/RGMII1_TXD0
part H pins: AG16 HDMI1_CLOCKX, AG17 HDMI1_DATA0X, AG18 HDMI1_DATA1X, AG19 HDMI1_DATA2X, AH16 HDMI1_CLOCKY, AH17 HDMI1_DATA0Y, AH18 HDMI1_DATA1Y, AH19 HDMI1_DATA2Y, B20 SPI1_CS3/HDMI_CEC, B21 SPI1_CS2/HDMI_HPD, C25 I2C2_SDA/HDMI1_DDC_SCL, F17 I2C2_SCL/HDMI1_DDC_SDA
part I pins: C28 UART2_RTSn/UART3_TXD, D27 UART2_CTSn/UART3_RXD
part J pins: F2 VIN2A_D0/PR1_UART0_RXD, F3 VIN2A_D1/PR1_UART0_TXD, F4 VIN2A_D5/PR1_PRU1_R30_2, U3 RMII50MHZCLK/PR2_GPIO
part K pins: V2 UART3_RXD/PR1_MII0_RXDV, Y1 UART3_TXD/PR1_MII0_MR0CLK
part L pins: C1 VIN2A_D6/PR1_MII_MT1_CLK, D3 VIN2A_D10/PR1_MDIO_MDCLK, E4 VIN2A_D7/PR1_MII1_TXEN, E6 VIN2A_D9/PR1_MII1_TXD2, F5 VIN2A_D8/PR1_MII1_TXD3, F6 VIN2A_D11/PR1_MDIO_DATA
part M pins: A11 MCASP1_AXR9/PR2_MII0_TXD3, A12 MCASP1_AXR11/PR2_MII0_TXD1, A13 MCASP1_AXR13/PR2_MII_MR0_CLK, A16 MCASP2_AXR3/PR2_MII0_RXLINK, A18 MCASP2_FSX/PR2_MII0_RXD1, A19 MCASP2_ACLKX/PR2_MII0_RXD2, B12 MCASP1_AXR8/PR2_MII0_TXEN, B13 MCASP1_AXR10/PR2_MII0_TXD2, B18 MCASP3_ACLKX/PR2_MII0_CRS, C14 MCASP1_ACLKX/PR2_MDIO_MDCLK, C15 MCASP2_AXR2/PR2_MII0_RXD0, D14 MCASP1_FSX/PR2_MDIO_DATA, E14 MCASP1_AXR12/PR2_MII0_TXD0, F12 MCASP1_AXR1/PR2_MII_MT0_CLK, F14 MCASP1_AXR15/PR2_MII0_RXD3, F15 MCASP3_FSX/PR2_MII0_COL, G12 MCASP1_AXR0/PR2_MII0_RXER, G14 MCASP1_AXR14/PR2_MII0_RXDV
part N pins: AB4 GPIO6_11/PR2_MII1_TXEN, AB5 MMC3_DAT7/PR2_MII1_RXD0, AB8 MMC3_DAT6/PR2_MII1_RXD1, AC3 MMC3_DAT3/PR2_MII1_RXDV, AC4 MMC3_CMD/PR2_MII1_TXD2, AC5 GPIO6_10/PR2_MII_MT1_CLK, AC6 MMC3_DAT1/PR2_MII1_TXD0, AC7 MMC3_DAT0/PR2_MII1_TXD1, AC8 MMC3_DAT4/PR2_MII1_RXD3, AC9 MMC3_DAT2/PR2_MII_MR1_CLK, AD4 MMC3_CLK/PR2_MII1_TXD3, AD6 MMC3_DAT5/PR2_MII1_RXD2, B19 MCASP3_AXR0/PR2_MII1_RXER, C17 MCASP3_AXR1/PR2_MII1_RXLINK, D18 XREF_CLK0/PR2_MII1_COL, E17 XREF_CLK1/PR2_MII1_CRS
part O pins: AA5 MMC1_DAT2, AA6 MMC1_DAT0, W6 MMC1_CLK, W7 MMC1_SDCD, Y3 MMC1_DAT3, Y4 MMC1_DAT1, Y6 MMC1_CMD, Y9 MMC1_SDWP
part P pins: AG13 PCIE_RXN0, AG14 PCIE_TXN0, AG15 LJCB_CLKP, AH13 PCIE_RXP0, AH14 PCIE_TXP0, AH15 LJCB_CLKN
part Q pins: AB10 USB1_DRVVBUS, AC11 USB_TXN0, AC12 USB1_DM, AD11 USB_TXP0, AD12 USB1_DP, AE12 USB_RXP0, AF12 USB_RXN0
part R pins: C20 I2C1_SCL, C21 I2C1_SDA
part S pins: D20 TRSTn, D23 TDI, D24 EMU1, E18 RTCK, E20 TCK, F18 TMS, F19 TDO, G21 EMU0
part T pins: A5 VOUT1_D12, A7 VOUT1_D18, A8 VOUT1_D19, A9 VOUT1_D21, A10 VOUT1_D23, B7 VOUT1_D16, B8 VOUT1_D17, B9 VOUT1_D22, B10 VOUT1_DE, C6 VOUT1_D13, C7 VOUT1_D15, C8 VOUT1_D14, C9 VOUT1_D20, C11 VOUT1_HSYNC, D1 VIN2A_D2/eCAP1_IN_PWM1, D7 VOUT1_D10, D8 VOUT1_D11, D9 VOUT1_D9, D11 VOUT1_CLK, E7 VOUT1_D7, E8 VOUT1_D8, E9 VOUT1_D4, E11 VOUT1_VSYNC, F8 VOUT1_D6, F9 VOUT1_D5, F10 VOUT1_D2, F11 VOUT1_D0, G10 VOUT1_D1, G11 VOUT1_D3
part U pins: A21 MCASP4_FSX/SPI3_D1, AF4 VIN1A_D15/GPIO, C18 MCASP4_ACLKX/SPI3_SCLK, D17 MCASP4_AXR1/SPI3_CS0
part V pins: A15 MCASP2_AXR1, A17 MCASP2_AXR7, A20 MCASP2_FSR, A22 SPI1_CS1, A24 SPI1_CS0, A25 SPI1_SCLK, AA1 MLBP_DAT_P, AA2 MLBP_DAT_N, AA4 MCASP5_AXR1/GPIO, AB1 MLBP_CLK_P, AB2 MLBP_CLK_N, AB3 MCASP5_AXR0/GPIO, AC1 MLBP_SIG_P, AC2 MLBP_SIG_N, AD2 VIN1A_D22, AD3 VIN1A_D23, AD8 VIN1A_D1, AD9 VIN1A_DE0, AE1 VIN1A_D19, AE2 VIN1A_D20, AE3 VIN1A_D17, AE5 VIN1A_D18, AE6 VIN1A_D21, AE8 VIN1A_D0, AE9 VIN1A_HSYNC0, AF1 VIN1A_D16, AF3 VIN1A_D14, AF6 VIN1A_D13, AF8 VIN1A_VSYNC0, AF9 VIN1A_FLD0, AG2 VIN1A_D9, AG3 VIN1A_D10, AG4 VIN1A_D8, AG5 VIN1A_D11, AG6 VIN1A_D6, AG7 VIN1A_D2, AG8 VIN1A_CLK0, AG9 SATA1_RXP0, AG10 SATA1_TXN0, AG11 PCIE_RXN1, AG12 PCIE_TXN1, AH3 VIN1A_D4, AH4 VIN1A_D7, AH5 VIN1A_D5, AH6 VIN1A_D3, AH7 VIN1B_CLK1, AH9 SATA1_RXN0, AH10 SATA1_TXP0, AH11 PCIE_RXP1, AH12 PCIE_TXP1, B11 VOUT1_FLD, B14 MCASP1_ACLKR, B15 MCASP2_AXR0, B16 MCASP2_AXR5, B17 MCASP2_AXR6, B25 SPI1_D0, B26 XREF_CLK2, B27 UART1_RXD/GPIO, C12 MCASP1_AXR6, C26 UART1_TXD/GPIO, C27 UART1_RTSn/GPIO, D2 VIN2A_D4, D12 MCASP1_AXR7, D15 MCASP2_AXR4, E1 VIN2A_CLK0, E2 VIN2A_D3, E12 MCASP1_AXR4, E15 MCASP2_ACLKR, E21 GPIO6_14, E25 UART1_CTSn/GPIO, F13 MCASP1_AXR5, F16 SPI1_D1, F20 GPIO6_15, F21 GPIO6_16, G1 VIN2A_HSYNC0, G2 VIN2A_DE0, G6 VIN2A_VSYNC0, G13 MCASP1_AXR2, G16 MCASP4_AXR0/SPI3_D0, H1 GPMC_AD12, H2 GPMC_AD14, H3 GPMC_AD15, H7 VIN2A_FLD0, J1 GPMC_AD10, J2 GPMC_AD11, J3 GPMC_AD13, J11 MCASP1_AXR3, J14 MCASP1_FSR, K2 GPMC_AD9, L1 GPMC_AD8, L2 GPMC_AD7/GPIO, L3 GPMC_AD6/GPIO, L4 GPMC_AD5/GPIO, L5 GPMC_AD2/GPIO, L6 GPMC_AD4/GPIO, M1 GPMC_AD3/GPIO, M2 GPMC_AD1/GPIO, M3 GPMC_WEN, M4 GPMC_BEN1, M5 GPMC_OEN_REN, M6 GPMC_AD0/GPIO, N1 GPMC_ADVN_ALE, N2 GPMC_WAIT0, N6 GPMC_BEN0, P1 GPMC_CS3/GPIO, P7 GPMC_CLK, T1 GPMC_CS0
part W pins: G19 DCAN1_RX, G20 DCAN1_TX
part X pins: C23 XREF_CLK3/CLKOUT3, N7 GPMC_A8/VIN4B_HSYNC1, N9 GPMC_A10/VIN4B_CLK1, P4 GPMC_A12/VIN4B_FLD1, P5 GPMC_A7/VIN4B_D7, P6 GPMC_A4/VIN4B_D4, P9 GPMC_A11/VIN4B_DE1, R4 GPMC_A9/VIN4B_VSYNC1, R5 GPMC_A6/VIN4B_D6, R6 GPMC_A0/VIN4B_D0, R9 GPMC_A5/VIN4B_D5, T6 GPMC_A2/VIN4B_D2, T7 GPMC_A3/VIN4B_D3, T9 GPMC_A1/VIN4B_D1
part Y pins: A1 VSS (power), A2 VSS (power), A6 VSS (power), A14 VSS (power), A23 VSS (power), A27 RSVA27, A28 VSS (power), AA7 VDDS_MLBP (power), AA8 VSS (power), AA9 VSS (power), AA10 VSS (power), AA11 VSSA_USB (power), AA12 VDDA33V_USB1 (power), AA13 VDDA_USB1 (power), AA14 VSS (power), AA15 VSS (power), AA16 VDDA_PCIE1 (power), AA17 VDDA_PCIE0 (power), AA18 VDDS18V_DDR1 (power), AA19 VDDS18V_DDR1 (power), AA20 VSS (power), AA21 VDDS_DDR1 (power), AA22 VDDS_DDR1 (power), AB6 VDDSHV7 (power), AB7 VDDSHV7 (power), AB11 VSSA_USB (power), AB12 VDDA_USB2 (power), AB13 VDDA_RTC (power), AB14 VSS (power), AB15 VDD_RTC (power), AB20 VSS (power), AB21 VDDS_DDR1 (power), AB22 VDDS_DDR1 (power), AB24 VDDS_DDR1 (power), AB25 VDDS_DDR1 (power), AC22 VDDS_DDR1 (power), AD1 VSS (power), AD5 VDDSHV6 (power), AD7 VDDSHV6 (power), AD10 VSSA_USB3 (power), AD13 VSSA_PCIE (power), AD16 VDDA_OSC (power), AD19 VSSA_HDMI (power), AD24 VSS (power), AD26 VDDS_DDR1 (power), AE7 VDDSHV6 (power), AE10 VSSA_SATA (power), AE13 VSSA_PCIE (power), AE16 VDDA_OSC (power), AE19 VSSA_HDMI (power), AF5 VDDSHV6 (power), AG1 VSS (power), AG20 VDDS_DDR1 (power), AG28 VDDS_DDR1 (power), AH1 VSS (power), AH2 VSS (power), AH8 VSS (power), AH20 VSS (power), AH27 VDDS_DDR1 (power), AH28 VSS (power), B1 VSS (power), B6 VDDSHV2 (power), B23 VDDSHV3 (power), B28 RSVB28, C24 VDDSHV4 (power), D10 VDDSHV2 (power), D13 VSS (power), D16 VDDSHV3 (power), D19 VSS (power), D22 VDDSHV3 (power), E3 VDDSHV1 (power), E5 VDDSHV1 (power), E10 VDDSHV2 (power), E13 VSS (power), E16 VDDSHV3 (power), E19 VSS (power), E22 VDDSHV3 (power), E24 VDDS_DDR2 (power), F1 VSS (power), F7 VSS (power), G4 VDDSHV1 (power), G5 VDDSHV1 (power), G7 VSS (power), G8 VSS (power), G9 VSS (power), G15 VDDSHV3 (power), G18 VDDS18V (power), G22 VDDS_DDR2 (power), G23 VDDS_DDR2 (power), H8 VDDSHV1 (power), H9 VDDSHV1 (power), H10 VDDSHV2 (power), H11 VDDSHV2 (power), H12 VSS (power), H13 VDD (power), H14 VDD (power), H15 VDDSHV3 (power), H16 VDDSHV3 (power), H17 VDDS18V (power), H18 VDDSHV3 (power), H19 VDDSHV3 (power), H20 VDDS_DDR2 (power), H21 VDDS_DDR2 (power), H22 VDDS_DDR2 (power), J8 VDDSHV11 (power), J9 CAP_VDDRAM_DSPEVE2, J10 CAP_VDDRAM_DSPEVE1, J12 VSS (power), J13 VDD_DSPEVE (power), J15 VSS (power), J16 CAP_VBBLDO_MPU, J17 VDD (power), J18 VDD (power), J19 CAP_VDDRAM_CORE2, J21 VDDS18V_DDR2 (power), J22 VDDS18V_DDR2 (power), J27 VDDS_DDR2 (power), J28 VSS (power), K1 VSS (power), K4 VSS (power), K5 VSS (power), K8 VDDSHV11 (power), K9 CAP_VBBLDO_DSPEVE, K10 VDD_DSPEVE (power), K11 VDD_DSPEVE (power), K12 VDD_DSPEVE (power), K13 VDD_DSPEVE (power), K14 RSVK14, K15 VSS (power), K16 CAP_VDDRAM_MPU1, K17 VDD_MPU (power), K18 VDD_MPU (power), K19 CAP_VDDRAM_MPU2, K24 VSS (power), K25 VSS (power), L7 VDD (power), L8 VDD (power), L9 CAP_VDDRAM_CORE1, L10 VDD_DSPEVE (power), L11 VDD_DSPEVE (power), L12 VDD_DSPEVE (power), L13 VSS (power), L14 VSS (power), L15 VDD_MPU (power), L16 VDD_MPU (power), L17 VDD_MPU (power), L18 VDD_MPU (power), L19 VDD_MPU (power), L20 VDDS_DDR2 (power), L21 VDDS_DDR2 (power), M8 VDDS18V (power), M9 VDDS18V (power), M10 VDD_DSPEVE (power), M11 VDD_DSPEVE (power), M12 VDD_DSPEVE (power), M13 VDD_DSPEVE (power), M14 VDDA_ABE_PER (power), M15 VDD_MPU (power), M16 VDD_MPU (power), M17 VDD_MPU (power), M18 VDD_MPU (power), M19 VSS (power), M20 VDDS_DDR2 (power), M21 VDDS_DDR2 (power), N4 VDDSHV10 (power), N5 VDDSHV10 (power), N8 VDDS18V (power), N10 VDD (power), N11 VDDA_DEBUG (power), N12 VDDA_DSP_EVE (power), N13 VDD (power), N14 VSS (power), N15 VSS (power), N16 VDDA_MPU (power), N17 VDD_MPU (power), N18 VDD_MPU (power), N19 VSS (power), N21 VDDS18V_DDR2 (power), N24 VSS (power), N25 VSS (power), P8 VDDS18V (power), P10 VDDSHV10 (power), P11 VDD (power), P12 VDD (power), P13 VDD (power), P14 VDDA_VIDEO (power), P15 VDDA_GMAC_CORE (power), P16 VDDA_DDR (power), P17 VDD_MPU (power), P18 VDD_MPU (power), P19 CAP_VDDRAM_CORE4, P20 VDDS18V_DDR2 (power), P21 VDDS18V_DDR2 (power), P28 VSS (power), R1 VSS (power), R7 VDDSHV10 (power), R8 VDDS18V (power), R10 VDDSHV10 (power), R11 VDD (power), R12 VSS (power), R13 VSS (power), R14 VDDA_GPU (power), R15 VSS (power), R16 VDD (power), R17 VDDA_IVA (power), R18 VDD_MPU (power), R19 VDD (power), R20 CAP_VBBLDO_IVA, R21 VSS (power), T4 VDDSHV10 (power), T5 VDDSHV10 (power), T8 VDDS18V (power), T10 VSS (power), T11 VSS (power), T12 VSS (power), T13 VDD (power), T14 VSS (power), T15 VSS (power), T16 VDD (power), T17 VSS (power), T18 VSS (power), T19 VDD (power), T20 CAP_VDDRAM_IVA, T21 VSS (power), T24 VDDS_DDR2 (power), T25 VDDS_DDR2 (power), U8 VDD (power), U9 VDD (power), U10 VDDSHV9 (power), U11 VDD_GPU (power), U12 VDD_GPU (power), U13 VDD (power), U14 VSSA_VIDEO (power), U15 VSS (power), U16 VDD (power), U17 VSS (power), U18 VDD_IVA (power), U19 VDD_IVA (power), U20 VSS (power), U21 VSS (power), V8 VDD (power), V10 VDD_GPU (power), V11 VDD_GPU (power), V12 VDDSHV5 (power), V13 VDDA_SATA (power), V14 VDD_GPU (power), V15 VSS (power), V16 VDD (power), V17 VSS (power), V18 VDD_IVA (power), V19 VDD_IVA (power), V21 VDDS18V (power), V22 VDDS18V (power), W1 VSS (power), W4 VDDSHV9 (power), W5 VDDSHV9 (power), W8 VDDSHV8 (power), W10 VDD_GPU (power), W11 VDD_GPU (power), W12 VDDA_USB3 (power), W13 VDD_GPU (power), W14 VDDA_PCIE (power), W15 VSS (power), W16 VDDS_DDR1 (power), W17 VDDS18V (power), W18 VDDS18V (power), W21 VDDS18V_DDR1 (power), W24 VSS (power), W25 VSS (power), W27 VDDS_DDR1 (power), W28 VSS (power), Y5 RSVY5, Y7 VDDS_MLBP (power), Y8 VDDSHV8 (power), Y10 RSVY10, Y12 VDDA33V_USB2 (power), Y13 CAP_VDDRAM_GPU, Y14 CAP_VBBLDO_GPU, Y15 CAP_VDDRAM_CORE3, Y16 CAP_VDDRAM_CORE5, Y17 VDDA_HDMI (power), Y21 VDDS18V_DDR1 (power)
part Z pins: E26 DDR2_D0, E27 DDR2_D6, E28 DDR2_D7, F24 DDR2_D3, F25 DDR2_D2, F26 DDR2_D4, F27 DDR2_D5, F28 DDR2_DQM0, G24 DDR2_DQM1, G25 DDR2_D1, G26 DDR2_D12, G27 DDR2_DQS0n, G28 DDR2_DQS0, H23 DDR2_D8, H24 DDR2_D10, H25 DDR2_D9, H26 DDR2_D11, H27 DDR2_DQS1, H28 DDR2_DQS1n, J20 DDR2_D23, J23 DDR2_D21, J24 DDR2_D15, J25 DDR2_D13, J26 DDR2_D14, K20 DDR2_D17, K21 DDR2_D18, K22 DDR2_D22, K23 DDR2_DQM2, K27 DDR2_DQS2, K28 DDR2_DQS2n, L22 DDR2_D16, L23 DDR2_D19, L24 DDR2_D20, L25 DDR2_D26, L26 DDR2_D25, L27 DDR2_D24, L28 DDR2_D27, M22 DDR2_DQM3, M23 DDR2_D28, M24 DDR2_D29, M25 DDR2_D30, M26 DDR2_D31, M27 DDR2_DQS3n, M28 DDR2_DQS3, N20 DDR2_A7, N22 DDR2_VREF, N23 DDR2_A10, N27 DDR2_A9, N28 DDR2_A12, P22 DDR2_A5, P23 DDR2_A4, P24 DDR2_CSN0, P25 DDR2_A6, P26 DDR2_A11, P27 DDR2_A8, R22 DDR2_A14, R23 DDR2_ODT0, R24 DDR2_RST, R25 DDR2_A0, R26 DDR2_A1, R27 DDR2_A3, R28 DDR2_A2, T22 DDR2_A13, T23 DDR2_RASn, T27 DDR2_CKn, T28 DDR2_CK, U22 DDR2_A15, U23 DDR2_BA0, U24 DDR2_CKE, U25 DDR2_WEn, U26 DDR2_BA2, U27 DDR2_BA1, U28 DDR2_CASn
part 27 pins: AA3 MCASP5_ACLKX/PR2_PRU1_R30_1, AB9 MCASP5_FSX/PR2_PRU1_R31_2, D26 UART2_TXD, D28 UART2_RXD
part 28 pins: A26 SPI2_SCLK, B22 SPI2_D1, B24 SPI2_CS0, G17 SPI2_D0
part 29 pins: AC10 USB2_DRVVBUS, AE11 USB2_DP, AF2 VIN1A_D12/GPIO, AF11 USB2_DM
part A text: AM572X / Main / Osc/Ctrl /
part B text: AM572X RTC / Osc /
part C text: AM572X DDR /
part D text: AM572X / QSPI /
part E text: AM572X / eMMC /
part F text: AM572X / RGMII0 /
part G text: AM572X / RGMII1 /
part H text: AM572X / HDMI /
part I text: AM572X / UART3 /
part J text: AM572X / PR1_UART0 / ProfiBus /
part K text: AM572X / PRU1_MII0 /
part L text: AM572X / PRU1_MII1 /
part M text: AM572X / PRU2_MII0 /
part N text: AM572X / PRU2_MII1 /
part O text: AM572X / SD/MMC1 /
part P text: AM572X / PCIE /
part Q text: AM572X / USB1 /
part R text: AM572X / I2C1 /
part S text: AM572X / JTAG /
part T text: AM57XX / LCD /
part U text: AM572X / SPI3 /
part V text: AM572X GPIO & Unused / Pins /
part W text: AM572X / DCAN / #1 /
part X text: AM572X / Camera #1 /
part Y text: AM572X Power /
part Z text: AM572X DDR / #2 /
part 27 text: AM572X / RS-485 /
part 28 text: AM572X / SPI2 /
part 29 text: AM572X / USB2 /

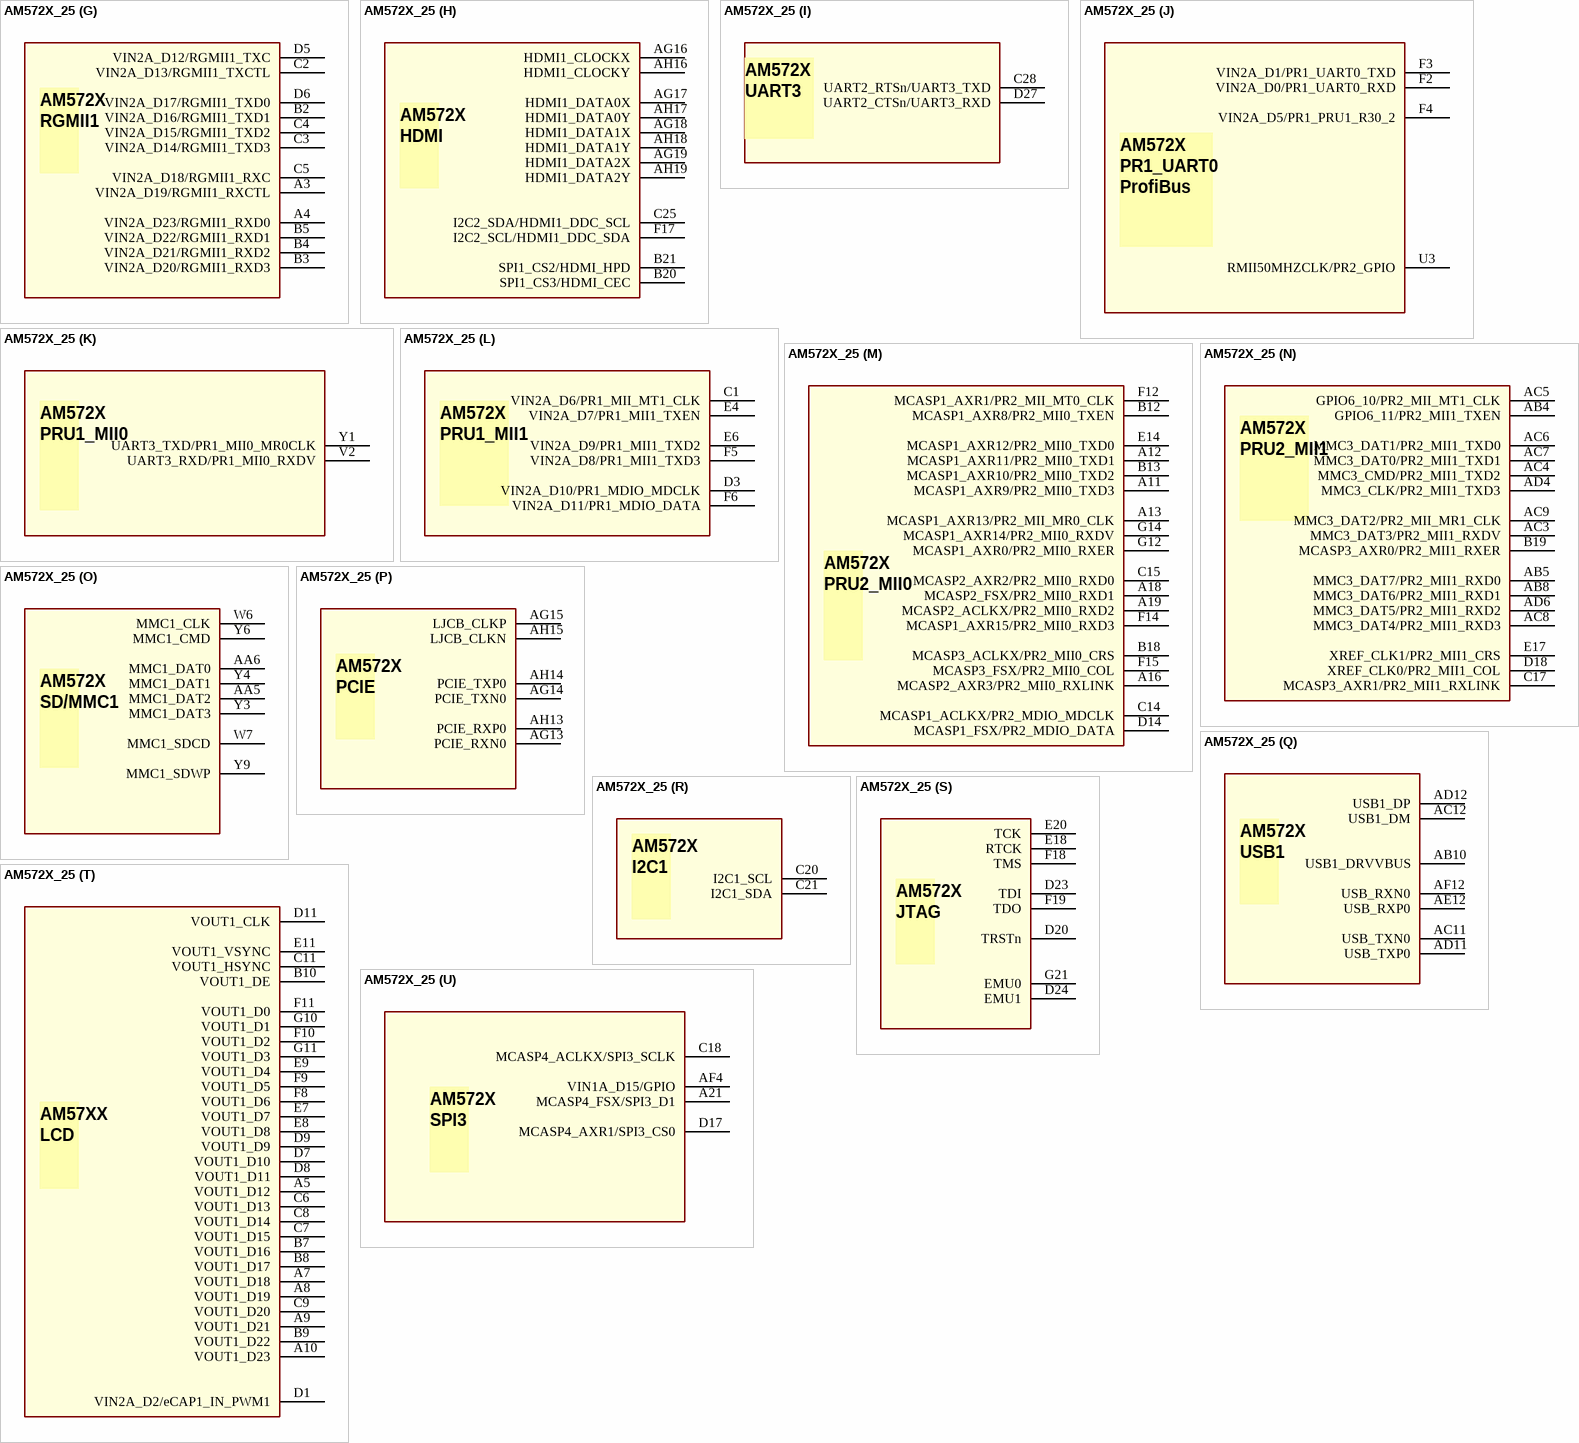
[diagram p104: symbol AM572X_25]

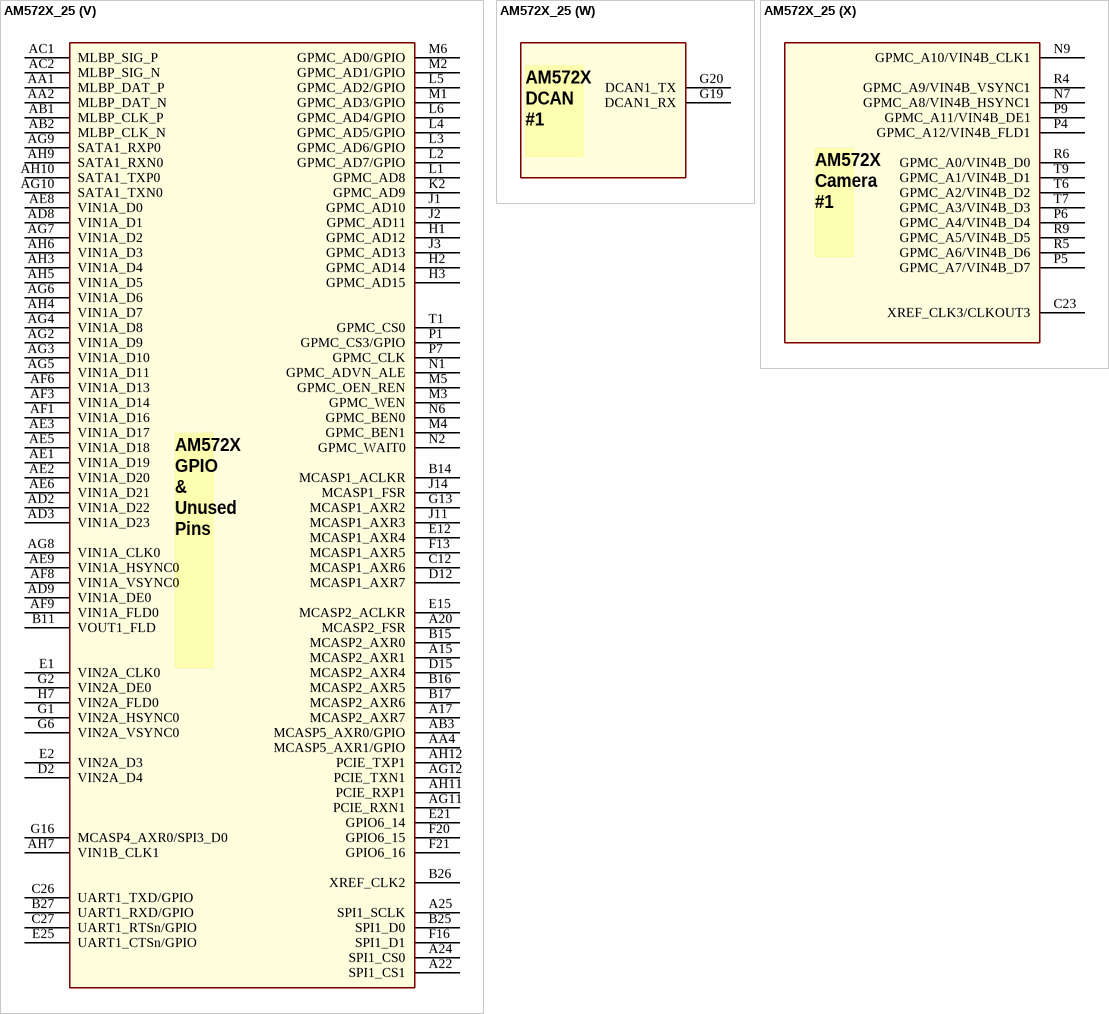
[diagram p105: symbol AM572X_25]

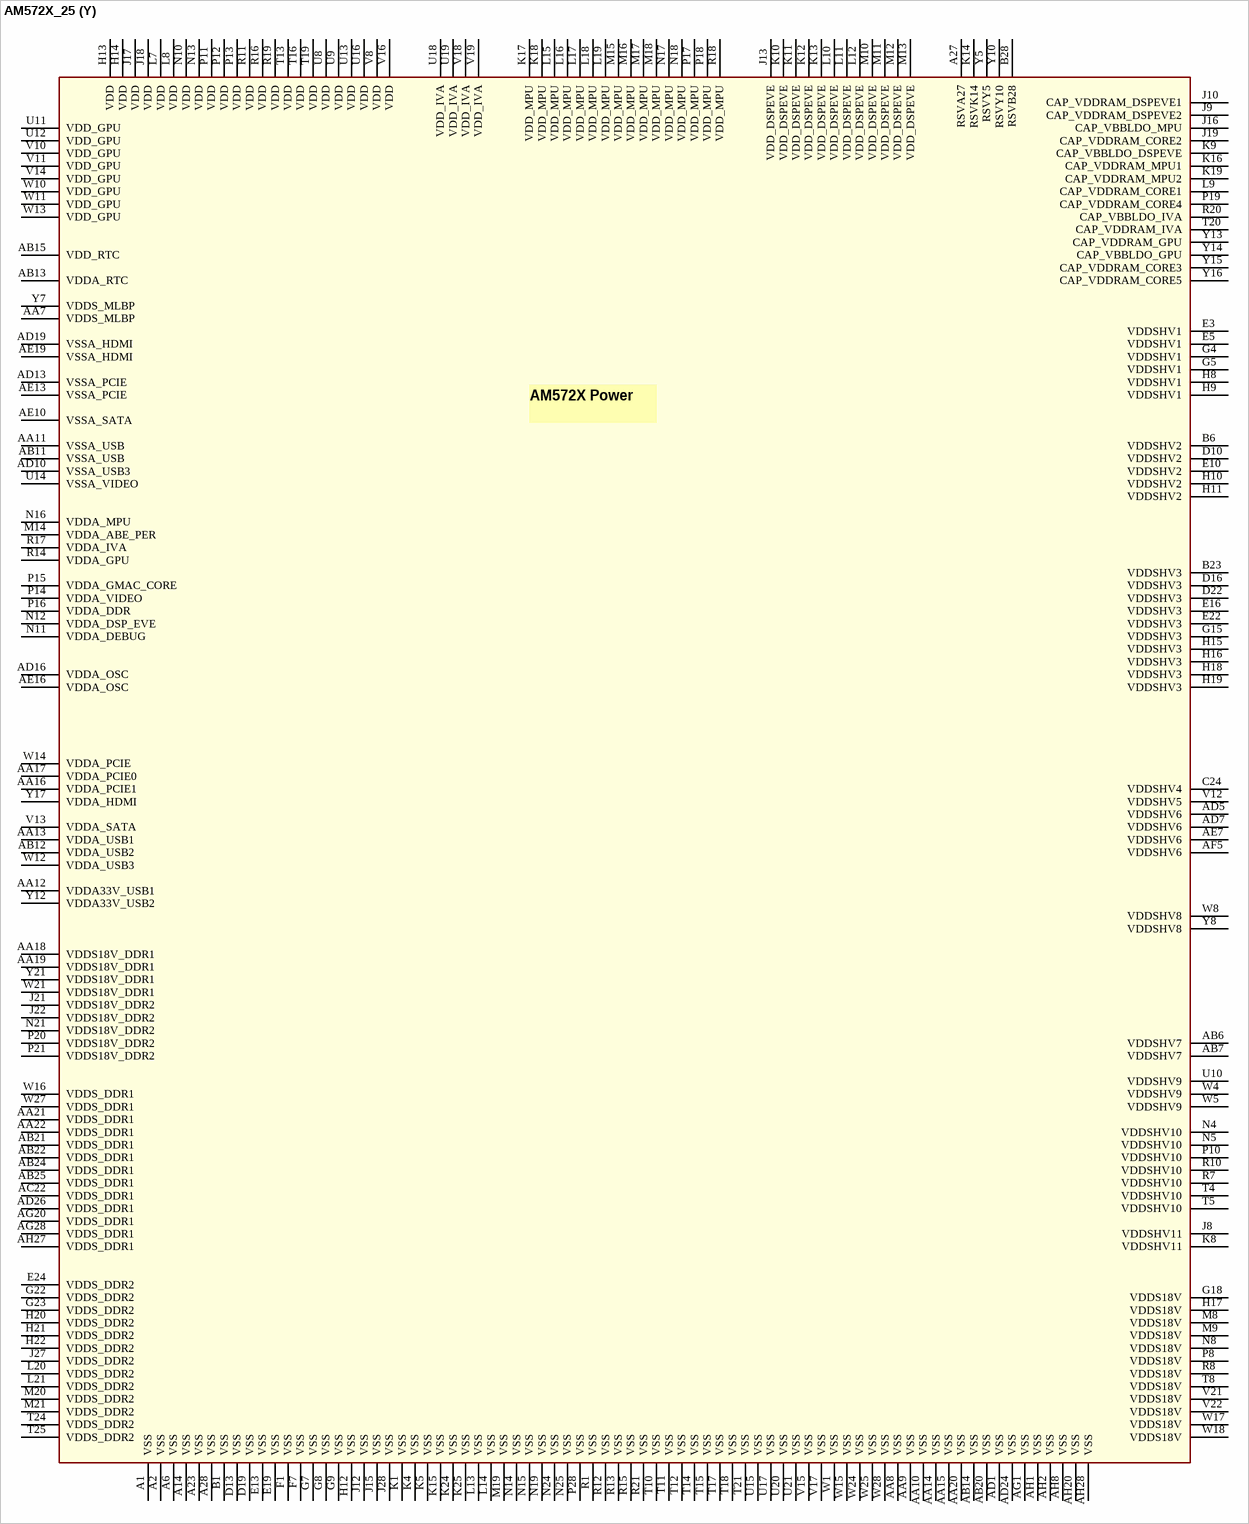
[diagram p106: symbol AM572X_25]

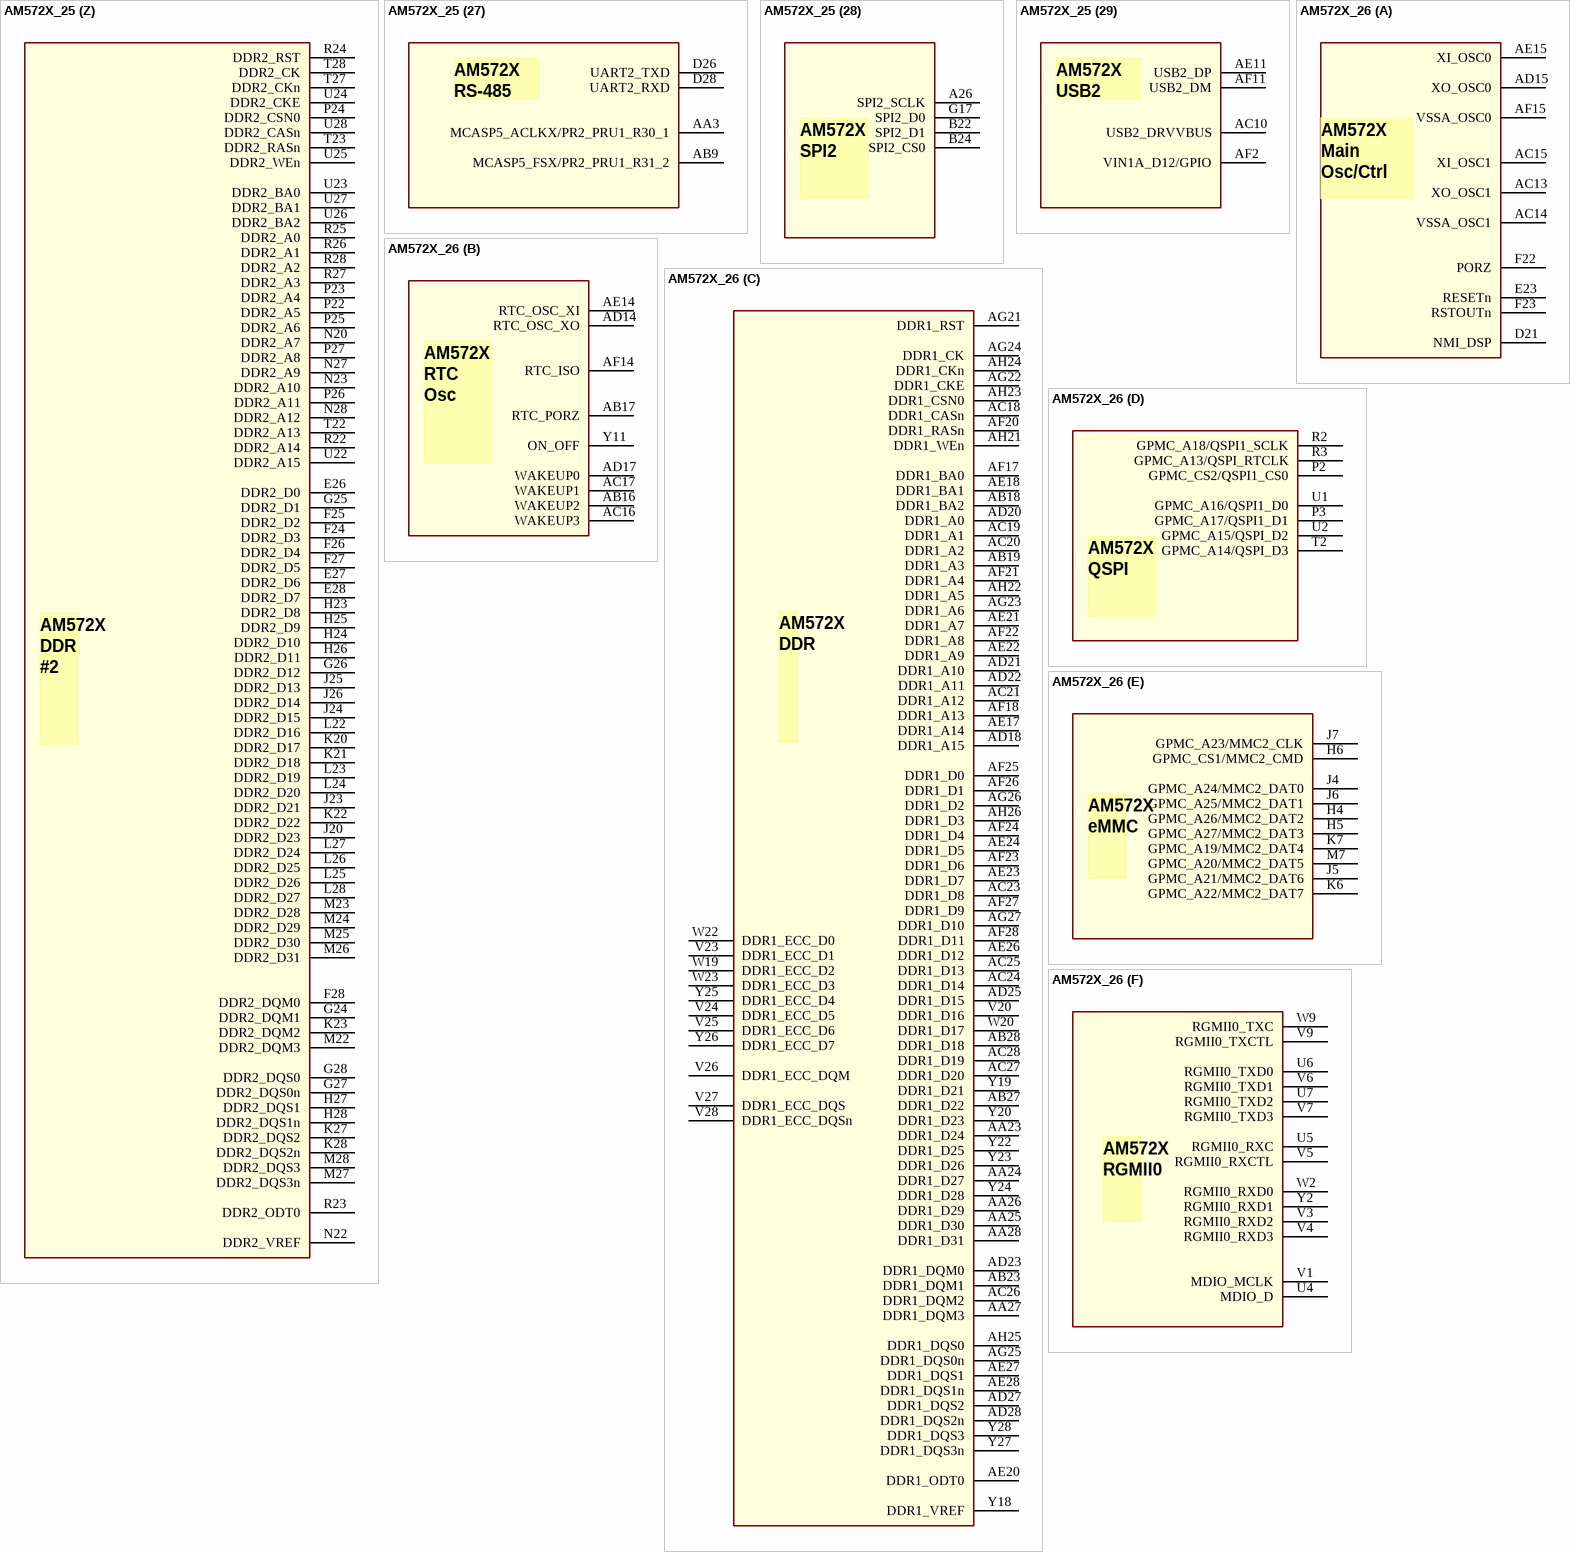
[diagram p107: symbols AM572X_25 to AM572X_26]

## AM572X_25
designator U?
Vendor: TI
footprint BGA23X23-760-117M
part A pins: AC13 XO_OSC1, AC14 VSSA_OSC1 (power), AC15 XI_OSC1, AD15 XO_OSC0, AE15 XI_OSC0, AF15 VSSA_OSC0 (power), D21 NMI_DSP, E23 RESETn, F22 PORZ, F23 RSTOUTn
part B pins: AB16 WAKEUP2, AB17 RTC_PORZ, AC16 WAKEUP3, AC17 WAKEUP1, AD14 RTC_OSC_XO, AD17 WAKEUP0, AE14 RTC_OSC_XI, AF14 RTC_ISO, Y11 ON_OFF
part C pins: AA23 DDR1_D24, AA24 DDR1_D27, AA25 DDR1_D30, AA26 DDR1_D29, AA27 DDR1_DQM3, AA28 DDR1_D31, AB18 DDR1_BA2, AB19 DDR1_A3, AB23 DDR1_DQM1, AB27 DDR1_D22, AB28 DDR1_D18, AC18 DDR1_CASn, AC19 DDR1_A1, AC20 DDR1_A2, AC21 DDR1_A12, AC23 DDR1_D8, AC24 DDR1_D14, AC25 DDR1_D13, AC26 DDR1_DQM2, AC27 DDR1_D20, AC28 DDR1_D19, AD18 DDR1_A15, AD20 DDR1_A0, AD21 DDR1_A10, AD22 DDR1_A11, AD23 DDR1_DQM0, AD25 DDR1_D15, AD27 DDR1_DQS2, AD28 DDR1_DQS2n, AE17 DDR1_A14, AE18 DDR1_BA1, AE20 DDR1_ODT0, AE21 DDR1_A7, AE22 DDR1_A9, AE23 DDR1_D7, AE24 DDR1_D5, AE26 DDR1_D12, AE27 DDR1_DQS1, AE28 DDR1_DQS1n, AF17 DDR1_BA0, AF18 DDR1_A13, AF20 DDR1_RASn, AF21 DDR1_A4, AF22 DDR1_A8, AF23 DDR1_D6, AF24 DDR1_D4, AF25 DDR1_D0, AF26 DDR1_D1, AF27 DDR1_D9, AF28 DDR1_D11, AG21 DDR1_RST, AG22 DDR1_CKE, AG23 DDR1_A6, AG24 DDR1_CK, AG25 DDR1_DQS0n, AG26 DDR1_D2, AG27 DDR1_D10, AH21 DDR1_WEn, AH22 DDR1_A5, AH23 DDR1_CSN0, AH24 DDR1_CKn, AH25 DDR1_DQS0, AH26 DDR1_D3, V20 DDR1_D16, V23 DDR1_ECC_D1, V24 DDR1_ECC_D5, V25 DDR1_ECC_D6, V26 DDR1_ECC_DQM, V27 DDR1_ECC_DQS, V28 DDR1_ECC_DQSn, W19 DDR1_ECC_D2, W20 DDR1_D17, W22 DDR1_ECC_D0, W23 DDR1_ECC_D3, Y18 DDR1_VREF, Y19 DDR1_D21, Y20 DDR1_D23, Y22 DDR1_D25, Y23 DDR1_D26, Y24 DDR1_D28, Y25 DDR1_ECC_D4, Y26 DDR1_ECC_D7, Y27 DDR1_DQS3n, Y28 DDR1_DQS3
part D pins: P2 GPMC_CS2/QSPI1_CS0, P3 GPMC_A17/QSPI1_D1, R2 GPMC_A18/QSPI1_SCLK, R3 GPMC_A13/QSPI_RTCLK, T2 GPMC_A14/QSPI_D3, U1 GPMC_A16/QSPI1_D0, U2 GPMC_A15/QSPI_D2
part E pins: H4 GPMC_A26/MMC2_DAT2, H5 GPMC_A27/MMC2_DAT3, H6 GPMC_CS1/MMC2_CMD, J4 GPMC_A24/MMC2_DAT0, J5 GPMC_A21/MMC2_DAT6, J6 GPMC_A25/MMC2_DAT1, J7 GPMC_A23/MMC2_CLK, K6 GPMC_A22/MMC2_DAT7, K7 GPMC_A19/MMC2_DAT4, M7 GPMC_A20/MMC2_DAT5
part F pins: U4 MDIO_D, U5 RGMII0_RXC, U6 RGMII0_TXD0, U7 RGMII0_TXD2, V1 MDIO_MCLK, V3 RGMII0_RXD2, V4 RGMII0_RXD3, V5 RGMII0_RXCTL, V6 RGMII0_TXD1, V7 RGMII0_TXD3, V9 RGMII0_TXCTL, W2 RGMII0_RXD0, W9 RGMII0_TXC, Y2 RGMII0_RXD1
part G pins: A3 VIN2A_D19/RGMII1_RXCTL, A4 VIN2A_D23/RGMII1_RXD0, B2 VIN2A_D16/RGMII1_TXD1, B3 VIN2A_D20/RGMII1_RXD3, B4 VIN2A_D21/RGMII1_RXD2, B5 VIN2A_D22/RGMII1_RXD1, C2 VIN2A_D13/RGMII1_TXCTL, C3 VIN2A_D14/RGMII1_TXD3, C4 VIN2A_D15/RGMII1_TXD2, C5 VIN2A_D18/RGMII1_RXC, D5 VIN2A_D12/RGMII1_TXC, D6 VIN2A_D17/RGMII1_TXD0
part H pins: AG16 HDMI1_CLOCKX, AG17 HDMI1_DATA0X, AG18 HDMI1_DATA1X, AG19 HDMI1_DATA2X, AH16 HDMI1_CLOCKY, AH17 HDMI1_DATA0Y, AH18 HDMI1_DATA1Y, AH19 HDMI1_DATA2Y, B20 SPI1_CS3/HDMI_CEC, B21 SPI1_CS2/HDMI_HPD, C25 I2C2_SDA/HDMI1_DDC_SCL, F17 I2C2_SCL/HDMI1_DDC_SDA
part I pins: C28 UART2_RTSn/UART3_TXD, D27 UART2_CTSn/UART3_RXD
part J pins: F2 VIN2A_D0/PR1_UART0_RXD, F3 VIN2A_D1/PR1_UART0_TXD, F4 VIN2A_D5/PR1_PRU1_R30_2, U3 RMII50MHZCLK/PR2_GPIO
part K pins: V2 UART3_RXD/PR1_MII0_RXDV, Y1 UART3_TXD/PR1_MII0_MR0CLK
part L pins: C1 VIN2A_D6/PR1_MII_MT1_CLK, D3 VIN2A_D10/PR1_MDIO_MDCLK, E4 VIN2A_D7/PR1_MII1_TXEN, E6 VIN2A_D9/PR1_MII1_TXD2, F5 VIN2A_D8/PR1_MII1_TXD3, F6 VIN2A_D11/PR1_MDIO_DATA
part M pins: A11 MCASP1_AXR9/PR2_MII0_TXD3, A12 MCASP1_AXR11/PR2_MII0_TXD1, A13 MCASP1_AXR13/PR2_MII_MR0_CLK, A16 MCASP2_AXR3/PR2_MII0_RXLINK, A18 MCASP2_FSX/PR2_MII0_RXD1, A19 MCASP2_ACLKX/PR2_MII0_RXD2, B12 MCASP1_AXR8/PR2_MII0_TXEN, B13 MCASP1_AXR10/PR2_MII0_TXD2, B18 MCASP3_ACLKX/PR2_MII0_CRS, C14 MCASP1_ACLKX/PR2_MDIO_MDCLK, C15 MCASP2_AXR2/PR2_MII0_RXD0, D14 MCASP1_FSX/PR2_MDIO_DATA, E14 MCASP1_AXR12/PR2_MII0_TXD0, F12 MCASP1_AXR1/PR2_MII_MT0_CLK, F14 MCASP1_AXR15/PR2_MII0_RXD3, F15 MCASP3_FSX/PR2_MII0_COL, G12 MCASP1_AXR0/PR2_MII0_RXER, G14 MCASP1_AXR14/PR2_MII0_RXDV
part N pins: AB4 GPIO6_11/PR2_MII1_TXEN, AB5 MMC3_DAT7/PR2_MII1_RXD0, AB8 MMC3_DAT6/PR2_MII1_RXD1, AC3 MMC3_DAT3/PR2_MII1_RXDV, AC4 MMC3_CMD/PR2_MII1_TXD2, AC5 GPIO6_10/PR2_MII_MT1_CLK, AC6 MMC3_DAT1/PR2_MII1_TXD0, AC7 MMC3_DAT0/PR2_MII1_TXD1, AC8 MMC3_DAT4/PR2_MII1_RXD3, AC9 MMC3_DAT2/PR2_MII_MR1_CLK, AD4 MMC3_CLK/PR2_MII1_TXD3, AD6 MMC3_DAT5/PR2_MII1_RXD2, B19 MCASP3_AXR0/PR2_MII1_RXER, C17 MCASP3_AXR1/PR2_MII1_RXLINK, D18 XREF_CLK0/PR2_MII1_COL, E17 XREF_CLK1/PR2_MII1_CRS
part O pins: AA5 MMC1_DAT2, AA6 MMC1_DAT0, W6 MMC1_CLK, W7 MMC1_SDCD, Y3 MMC1_DAT3, Y4 MMC1_DAT1, Y6 MMC1_CMD, Y9 MMC1_SDWP
part P pins: AG13 PCIE_RXN0, AG14 PCIE_TXN0, AG15 LJCB_CLKP, AH13 PCIE_RXP0, AH14 PCIE_TXP0, AH15 LJCB_CLKN
part Q pins: AB10 USB1_DRVVBUS, AC11 USB_TXN0, AC12 USB1_DM, AD11 USB_TXP0, AD12 USB1_DP, AE12 USB_RXP0, AF12 USB_RXN0
part R pins: C20 I2C1_SCL, C21 I2C1_SDA
part S pins: D20 TRSTn, D23 TDI, D24 EMU1, E18 RTCK, E20 TCK, F18 TMS, F19 TDO, G21 EMU0
part T pins: A5 VOUT1_D12, A7 VOUT1_D18, A8 VOUT1_D19, A9 VOUT1_D21, A10 VOUT1_D23, B7 VOUT1_D16, B8 VOUT1_D17, B9 VOUT1_D22, B10 VOUT1_DE, C6 VOUT1_D13, C7 VOUT1_D15, C8 VOUT1_D14, C9 VOUT1_D20, C11 VOUT1_HSYNC, D1 VIN2A_D2/eCAP1_IN_PWM1, D7 VOUT1_D10, D8 VOUT1_D11, D9 VOUT1_D9, D11 VOUT1_CLK, E7 VOUT1_D7, E8 VOUT1_D8, E9 VOUT1_D4, E11 VOUT1_VSYNC, F8 VOUT1_D6, F9 VOUT1_D5, F10 VOUT1_D2, F11 VOUT1_D0, G10 VOUT1_D1, G11 VOUT1_D3
part U pins: A21 MCASP4_FSX/SPI3_D1, AF4 VIN1A_D15/GPIO, C18 MCASP4_ACLKX/SPI3_SCLK, D17 MCASP4_AXR1/SPI3_CS0
part V pins: A15 MCASP2_AXR1, A17 MCASP2_AXR7, A20 MCASP2_FSR, A22 SPI1_CS1, A24 SPI1_CS0, A25 SPI1_SCLK, AA1 MLBP_DAT_P, AA2 MLBP_DAT_N, AA4 MCASP5_AXR1/GPIO, AB1 MLBP_CLK_P, AB2 MLBP_CLK_N, AB3 MCASP5_AXR0/GPIO, AC1 MLBP_SIG_P, AC2 MLBP_SIG_N, AD2 VIN1A_D22, AD3 VIN1A_D23, AD8 VIN1A_D1, AD9 VIN1A_DE0, AE1 VIN1A_D19, AE2 VIN1A_D20, AE3 VIN1A_D17, AE5 VIN1A_D18, AE6 VIN1A_D21, AE8 VIN1A_D0, AE9 VIN1A_HSYNC0, AF1 VIN1A_D16, AF3 VIN1A_D14, AF6 VIN1A_D13, AF8 VIN1A_VSYNC0, AF9 VIN1A_FLD0, AG2 VIN1A_D9, AG3 VIN1A_D10, AG4 VIN1A_D8, AG5 VIN1A_D11, AG6 VIN1A_D6, AG7 VIN1A_D2, AG8 VIN1A_CLK0, AG9 SATA1_RXP0, AG10 SATA1_TXN0, AG11 PCIE_RXN1, AG12 PCIE_TXN1, AH3 VIN1A_D4, AH4 VIN1A_D7, AH5 VIN1A_D5, AH6 VIN1A_D3, AH7 VIN1B_CLK1, AH9 SATA1_RXN0, AH10 SATA1_TXP0, AH11 PCIE_RXP1, AH12 PCIE_TXP1, B11 VOUT1_FLD, B14 MCASP1_ACLKR, B15 MCASP2_AXR0, B16 MCASP2_AXR5, B17 MCASP2_AXR6, B25 SPI1_D0, B26 XREF_CLK2, B27 UART1_RXD/GPIO, C12 MCASP1_AXR6, C26 UART1_TXD/GPIO, C27 UART1_RTSn/GPIO, D2 VIN2A_D4, D12 MCASP1_AXR7, D15 MCASP2_AXR4, E1 VIN2A_CLK0, E2 VIN2A_D3, E12 MCASP1_AXR4, E15 MCASP2_ACLKR, E21 GPIO6_14, E25 UART1_CTSn/GPIO, F13 MCASP1_AXR5, F16 SPI1_D1, F20 GPIO6_15, F21 GPIO6_16, G1 VIN2A_HSYNC0, G2 VIN2A_DE0, G6 VIN2A_VSYNC0, G13 MCASP1_AXR2, G16 MCASP4_AXR0/SPI3_D0, H1 GPMC_AD12, H2 GPMC_AD14, H3 GPMC_AD15, H7 VIN2A_FLD0, J1 GPMC_AD10, J2 GPMC_AD11, J3 GPMC_AD13, J11 MCASP1_AXR3, J14 MCASP1_FSR, K2 GPMC_AD9, L1 GPMC_AD8, L2 GPMC_AD7/GPIO, L3 GPMC_AD6/GPIO, L4 GPMC_AD5/GPIO, L5 GPMC_AD2/GPIO, L6 GPMC_AD4/GPIO, M1 GPMC_AD3/GPIO, M2 GPMC_AD1/GPIO, M3 GPMC_WEN, M4 GPMC_BEN1, M5 GPMC_OEN_REN, M6 GPMC_AD0/GPIO, N1 GPMC_ADVN_ALE, N2 GPMC_WAIT0, N6 GPMC_BEN0, P1 GPMC_CS3/GPIO, P7 GPMC_CLK, T1 GPMC_CS0
part W pins: G19 DCAN1_RX, G20 DCAN1_TX
part X pins: C23 XREF_CLK3/CLKOUT3, N7 GPMC_A8/VIN4B_HSYNC1, N9 GPMC_A10/VIN4B_CLK1, P4 GPMC_A12/VIN4B_FLD1, P5 GPMC_A7/VIN4B_D7, P6 GPMC_A4/VIN4B_D4, P9 GPMC_A11/VIN4B_DE1, R4 GPMC_A9/VIN4B_VSYNC1, R5 GPMC_A6/VIN4B_D6, R6 GPMC_A0/VIN4B_D0, R9 GPMC_A5/VIN4B_D5, T6 GPMC_A2/VIN4B_D2, T7 GPMC_A3/VIN4B_D3, T9 GPMC_A1/VIN4B_D1
part Y pins: A1 VSS (power), A2 VSS (power), A6 VSS (power), A14 VSS (power), A23 VSS (power), A27 RSVA27, A28 VSS (power), AA7 VDDS_MLBP (power), AA8 VSS (power), AA9 VSS (power), AA10 VSS (power), AA11 VSSA_USB (power), AA12 VDDA33V_USB1 (power), AA13 VDDA_USB1 (power), AA14 VSS (power), AA15 VSS (power), AA16 VDDA_PCIE1 (power), AA17 VDDA_PCIE0 (power), AA18 VDDS18V_DDR1 (power), AA19 VDDS18V_DDR1 (power), AA20 VSS (power), AA21 VDDS_DDR1 (power), AA22 VDDS_DDR1 (power), AB6 VDDSHV7 (power), AB7 VDDSHV7 (power), AB11 VSSA_USB (power), AB12 VDDA_USB2 (power), AB13 VDDA_RTC (power), AB14 VSS (power), AB15 VDD_RTC (power), AB20 VSS (power), AB21 VDDS_DDR1 (power), AB22 VDDS_DDR1 (power), AB24 VDDS_DDR1 (power), AB25 VDDS_DDR1 (power), AC22 VDDS_DDR1 (power), AD1 VSS (power), AD5 VDDSHV6 (power), AD7 VDDSHV6 (power), AD10 VSSA_USB3 (power), AD13 VSSA_PCIE (power), AD16 VDDA_OSC (power), AD19 VSSA_HDMI (power), AD24 VSS (power), AD26 VDDS_DDR1 (power), AE7 VDDSHV6 (power), AE10 VSSA_SATA (power), AE13 VSSA_PCIE (power), AE16 VDDA_OSC (power), AE19 VSSA_HDMI (power), AF5 VDDSHV6 (power), AG1 VSS (power), AG20 VDDS_DDR1 (power), AG28 VDDS_DDR1 (power), AH1 VSS (power), AH2 VSS (power), AH8 VSS (power), AH20 VSS (power), AH27 VDDS_DDR1 (power), AH28 VSS (power), B1 VSS (power), B6 VDDSHV2 (power), B23 VDDSHV3 (power), B28 RSVB28, C24 VDDSHV4 (power), D10 VDDSHV2 (power), D13 VSS (power), D16 VDDSHV3 (power), D19 VSS (power), D22 VDDSHV3 (power), E3 VDDSHV1 (power), E5 VDDSHV1 (power), E10 VDDSHV2 (power), E13 VSS (power), E16 VDDSHV3 (power), E19 VSS (power), E22 VDDSHV3 (power), E24 VDDS_DDR2 (power), F1 VSS (power), F7 VSS (power), G4 VDDSHV1 (power), G5 VDDSHV1 (power), G7 VSS (power), G8 VSS (power), G9 VSS (power), G15 VDDSHV3 (power), G18 VDDS18V (power), G22 VDDS_DDR2 (power), G23 VDDS_DDR2 (power), H8 VDDSHV1 (power), H9 VDDSHV1 (power), H10 VDDSHV2 (power), H11 VDDSHV2 (power), H12 VSS (power), H13 VDD (power), H14 VDD (power), H15 VDDSHV3 (power), H16 VDDSHV3 (power), H17 VDDS18V (power), H18 VDDSHV3 (power), H19 VDDSHV3 (power), H20 VDDS_DDR2 (power), H21 VDDS_DDR2 (power), H22 VDDS_DDR2 (power), J8 VDDSHV11 (power), J9 CAP_VDDRAM_DSPEVE2, J10 CAP_VDDRAM_DSPEVE1, J12 VSS (power), J13 VDD_DSPEVE (power), J15 VSS (power), J16 CAP_VBBLDO_MPU, J17 VDD (power), J18 VDD (power), J19 CAP_VDDRAM_CORE2, J21 VDDS18V_DDR2 (power), J22 VDDS18V_DDR2 (power), J27 VDDS_DDR2 (power), J28 VSS (power), K1 VSS (power), K4 VSS (power), K5 VSS (power), K8 VDDSHV11 (power), K9 CAP_VBBLDO_DSPEVE, K10 VDD_DSPEVE (power), K11 VDD_DSPEVE (power), K12 VDD_DSPEVE (power), K13 VDD_DSPEVE (power), K14 RSVK14, K15 VSS (power), K16 CAP_VDDRAM_MPU1, K17 VDD_MPU (power), K18 VDD_MPU (power), K19 CAP_VDDRAM_MPU2, K24 VSS (power), K25 VSS (power), L7 VDD (power), L8 VDD (power), L9 CAP_VDDRAM_CORE1, L10 VDD_DSPEVE (power), L11 VDD_DSPEVE (power), L12 VDD_DSPEVE (power), L13 VSS (power), L14 VSS (power), L15 VDD_MPU (power), L16 VDD_MPU (power), L17 VDD_MPU (power), L18 VDD_MPU (power), L19 VDD_MPU (power), L20 VDDS_DDR2 (power), L21 VDDS_DDR2 (power), M8 VDDS18V (power), M9 VDDS18V (power), M10 VDD_DSPEVE (power), M11 VDD_DSPEVE (power), M12 VDD_DSPEVE (power), M13 VDD_DSPEVE (power), M14 VDDA_ABE_PER (power), M15 VDD_MPU (power), M16 VDD_MPU (power), M17 VDD_MPU (power), M18 VDD_MPU (power), M19 VSS (power), M20 VDDS_DDR2 (power), M21 VDDS_DDR2 (power), N4 VDDSHV10 (power), N5 VDDSHV10 (power), N8 VDDS18V (power), N10 VDD (power), N11 VDDA_DEBUG (power), N12 VDDA_DSP_EVE (power), N13 VDD (power), N14 VSS (power), N15 VSS (power), N16 VDDA_MPU (power), N17 VDD_MPU (power), N18 VDD_MPU (power), N19 VSS (power), N21 VDDS18V_DDR2 (power), N24 VSS (power), N25 VSS (power), P8 VDDS18V (power), P10 VDDSHV10 (power), P11 VDD (power), P12 VDD (power), P13 VDD (power), P14 VDDA_VIDEO (power), P15 VDDA_GMAC_CORE (power), P16 VDDA_DDR (power), P17 VDD_MPU (power), P18 VDD_MPU (power), P19 CAP_VDDRAM_CORE4, P20 VDDS18V_DDR2 (power), P21 VDDS18V_DDR2 (power), P28 VSS (power), R1 VSS (power), R7 VDDSHV10 (power), R8 VDDS18V (power), R10 VDDSHV10 (power), R11 VDD (power), R12 VSS (power), R13 VSS (power), R14 VDDA_GPU (power), R15 VSS (power), R16 VDD (power), R17 VDDA_IVA (power), R18 VDD_MPU (power), R19 VDD (power), R20 CAP_VBBLDO_IVA, R21 VSS (power), T4 VDDSHV10 (power), T5 VDDSHV10 (power), T8 VDDS18V (power), T10 VSS (power), T11 VSS (power), T12 VSS (power), T13 VDD (power), T14 VSS (power), T15 VSS (power), T16 VDD (power), T17 VSS (power), T18 VSS (power), T19 VDD (power), T20 CAP_VDDRAM_IVA, T21 VSS (power), T24 VDDS_DDR2 (power), T25 VDDS_DDR2 (power), U8 VDD (power), U9 VDD (power), U10 VDDSHV9 (power), U11 VDD_GPU (power), U12 VDD_GPU (power), U13 VDD (power), U14 VSSA_VIDEO (power), U15 VSS (power), U16 VDD (power), U17 VSS (power), U18 VDD_IVA (power), U19 VDD_IVA (power), U20 VSS (power), U21 VSS (power), V8 VDD (power), V10 VDD_GPU (power), V11 VDD_GPU (power), V12 VDDSHV5 (power), V13 VDDA_SATA (power), V14 VDD_GPU (power), V15 VSS (power), V16 VDD (power), V17 VSS (power), V18 VDD_IVA (power), V19 VDD_IVA (power), V21 VDDS18V (power), V22 VDDS18V (power), W1 VSS (power), W4 VDDSHV9 (power), W5 VDDSHV9 (power), W8 VDDSHV8 (power), W10 VDD_GPU (power), W11 VDD_GPU (power), W12 VDDA_USB3 (power), W13 VDD_GPU (power), W14 VDDA_PCIE (power), W15 VSS (power), W16 VDDS_DDR1 (power), W17 VDDS18V (power), W18 VDDS18V (power), W21 VDDS18V_DDR1 (power), W24 VSS (power), W25 VSS (power), W27 VDDS_DDR1 (power), W28 VSS (power), Y5 RSVY5, Y7 VDDS_MLBP (power), Y8 VDDSHV8 (power), Y10 RSVY10, Y12 VDDA33V_USB2 (power), Y13 CAP_VDDRAM_GPU, Y14 CAP_VBBLDO_GPU, Y15 CAP_VDDRAM_CORE3, Y16 CAP_VDDRAM_CORE5, Y17 VDDA_HDMI (power), Y21 VDDS18V_DDR1 (power)
part Z pins: E26 DDR2_D0, E27 DDR2_D6, E28 DDR2_D7, F24 DDR2_D3, F25 DDR2_D2, F26 DDR2_D4, F27 DDR2_D5, F28 DDR2_DQM0, G24 DDR2_DQM1, G25 DDR2_D1, G26 DDR2_D12, G27 DDR2_DQS0n, G28 DDR2_DQS0, H23 DDR2_D8, H24 DDR2_D10, H25 DDR2_D9, H26 DDR2_D11, H27 DDR2_DQS1, H28 DDR2_DQS1n, J20 DDR2_D23, J23 DDR2_D21, J24 DDR2_D15, J25 DDR2_D13, J26 DDR2_D14, K20 DDR2_D17, K21 DDR2_D18, K22 DDR2_D22, K23 DDR2_DQM2, K27 DDR2_DQS2, K28 DDR2_DQS2n, L22 DDR2_D16, L23 DDR2_D19, L24 DDR2_D20, L25 DDR2_D26, L26 DDR2_D25, L27 DDR2_D24, L28 DDR2_D27, M22 DDR2_DQM3, M23 DDR2_D28, M24 DDR2_D29, M25 DDR2_D30, M26 DDR2_D31, M27 DDR2_DQS3n, M28 DDR2_DQS3, N20 DDR2_A7, N22 DDR2_VREF, N23 DDR2_A10, N27 DDR2_A9, N28 DDR2_A12, P22 DDR2_A5, P23 DDR2_A4, P24 DDR2_CSN0, P25 DDR2_A6, P26 DDR2_A11, P27 DDR2_A8, R22 DDR2_A14, R23 DDR2_ODT0, R24 DDR2_RST, R25 DDR2_A0, R26 DDR2_A1, R27 DDR2_A3, R28 DDR2_A2, T22 DDR2_A13, T23 DDR2_RASn, T27 DDR2_CKn, T28 DDR2_CK, U22 DDR2_A15, U23 DDR2_BA0, U24 DDR2_CKE, U25 DDR2_WEn, U26 DDR2_BA2, U27 DDR2_BA1, U28 DDR2_CASn
part 27 pins: AA3 MCASP5_ACLKX/PR2_PRU1_R30_1, AB9 MCASP5_FSX/PR2_PRU1_R31_2, D26 UART2_TXD, D28 UART2_RXD
part 28 pins: A26 SPI2_SCLK, B22 SPI2_D1, B24 SPI2_CS0, G17 SPI2_D0
part 29 pins: AC10 USB2_DRVVBUS, AE11 USB2_DP, AF2 VIN1A_D12/GPIO, AF11 USB2_DM
part A text: AM572X / Main / Osc/Ctrl /
part B text: AM572X RTC / Osc /
part C text: AM572X DDR /
part D text: AM572X / QSPI /
part E text: AM572X / eMMC /
part F text: AM572X / RGMII0 /
part G text: AM572X / RGMII1 /
part H text: AM572X / HDMI /
part I text: AM572X / UART3 /
part J text: AM572X / PR1_UART0 / ProfiBus /
part K text: AM572X / PRU1_MII0 /
part L text: AM572X / PRU1_MII1 /
part M text: AM572X / PRU2_MII0 /
part N text: AM572X / PRU2_MII1 /
part O text: AM572X / SD/MMC1 /
part P text: AM572X / PCIE /
part Q text: AM572X / USB1 /
part R text: AM572X / I2C1 /
part S text: AM572X / JTAG /
part T text: AM57XX / LCD /
part U text: AM572X / SPI3 /
part V text: AM572X GPIO & Unused / Pins /
part W text: AM572X / DCAN / #1 /
part X text: AM572X / Camera #1 /
part Y text: AM572X Power /
part Z text: AM572X DDR / #2 /
part 27 text: AM572X / RS-485 /
part 28 text: AM572X / SPI2 /
part 29 text: AM572X / USB2 /

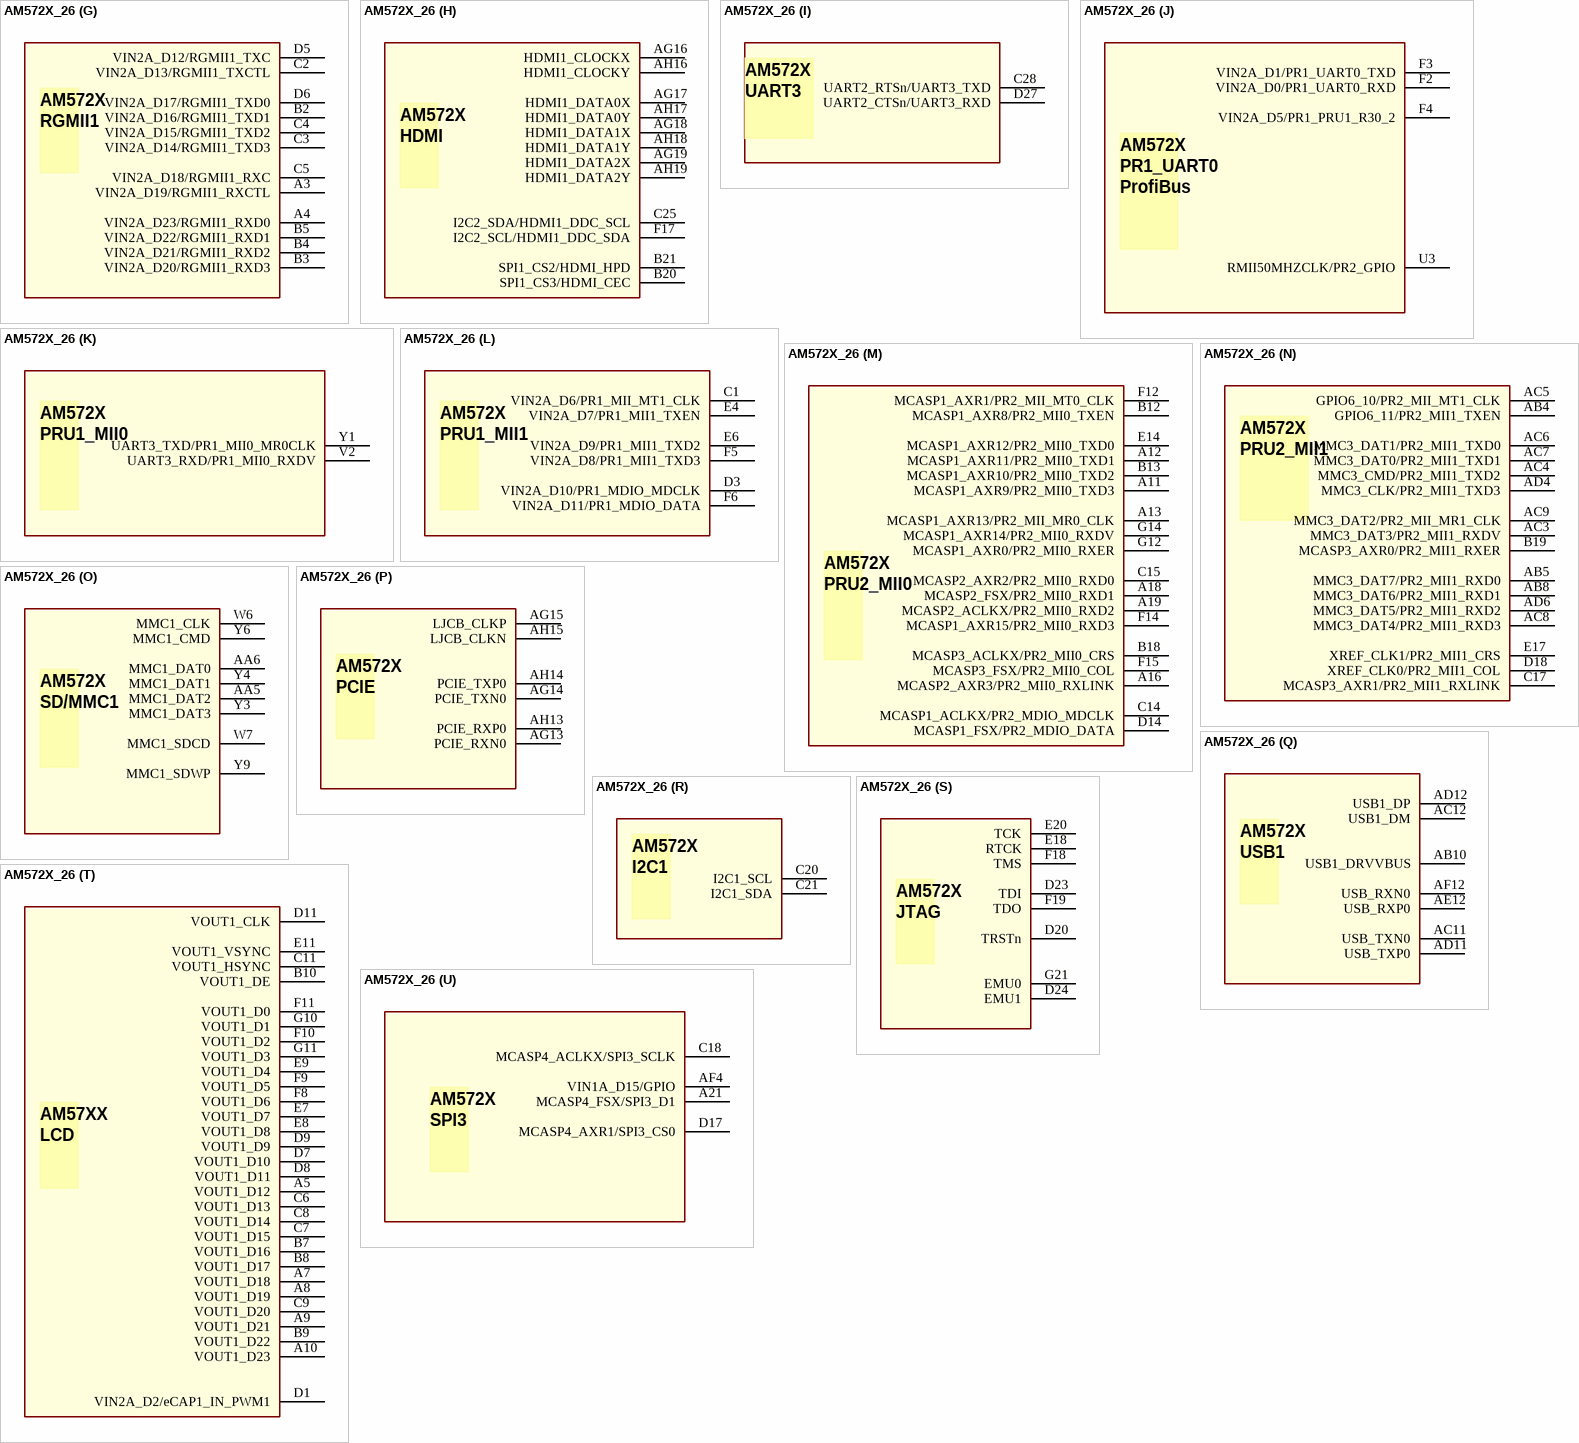
[diagram p108: symbol AM572X_26]

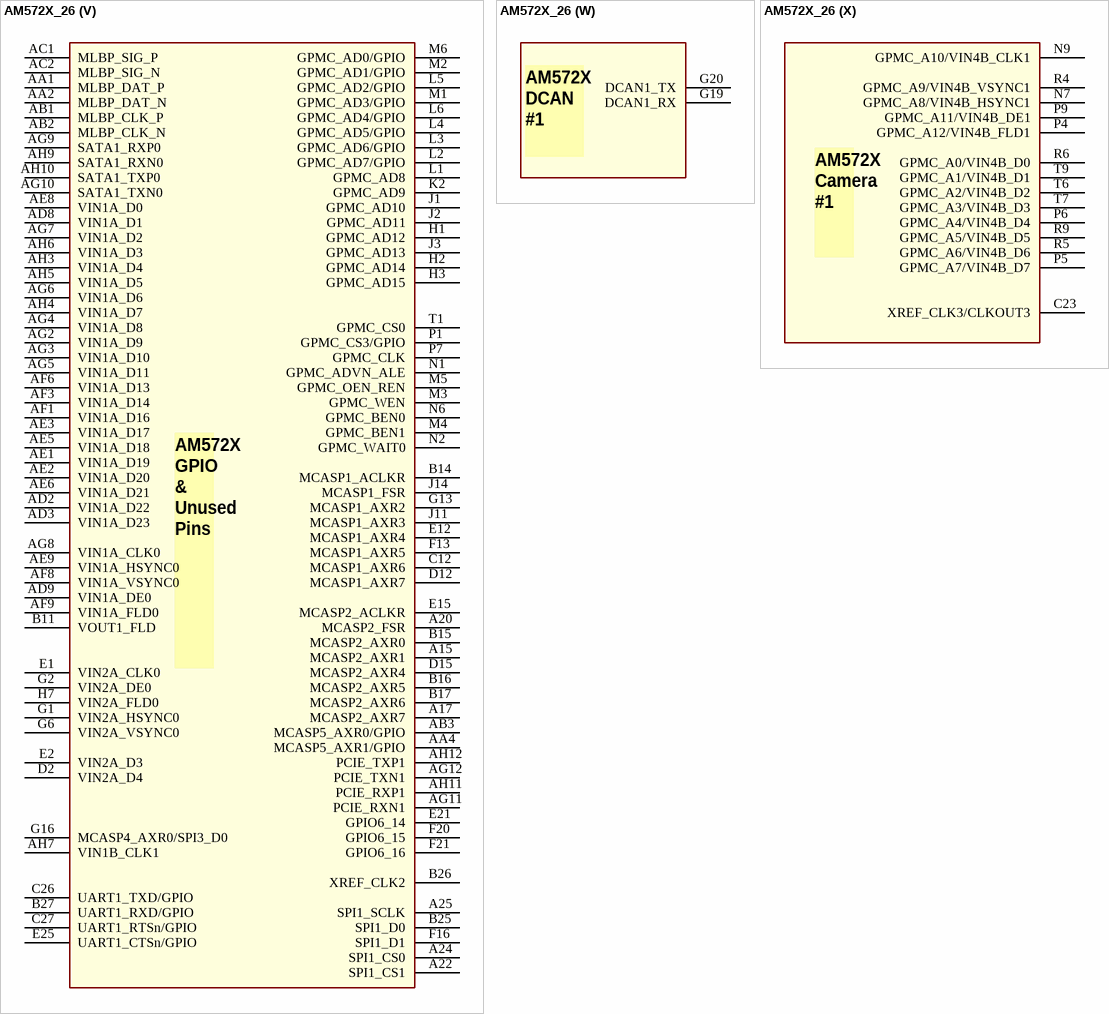
[diagram p109: symbol AM572X_26]

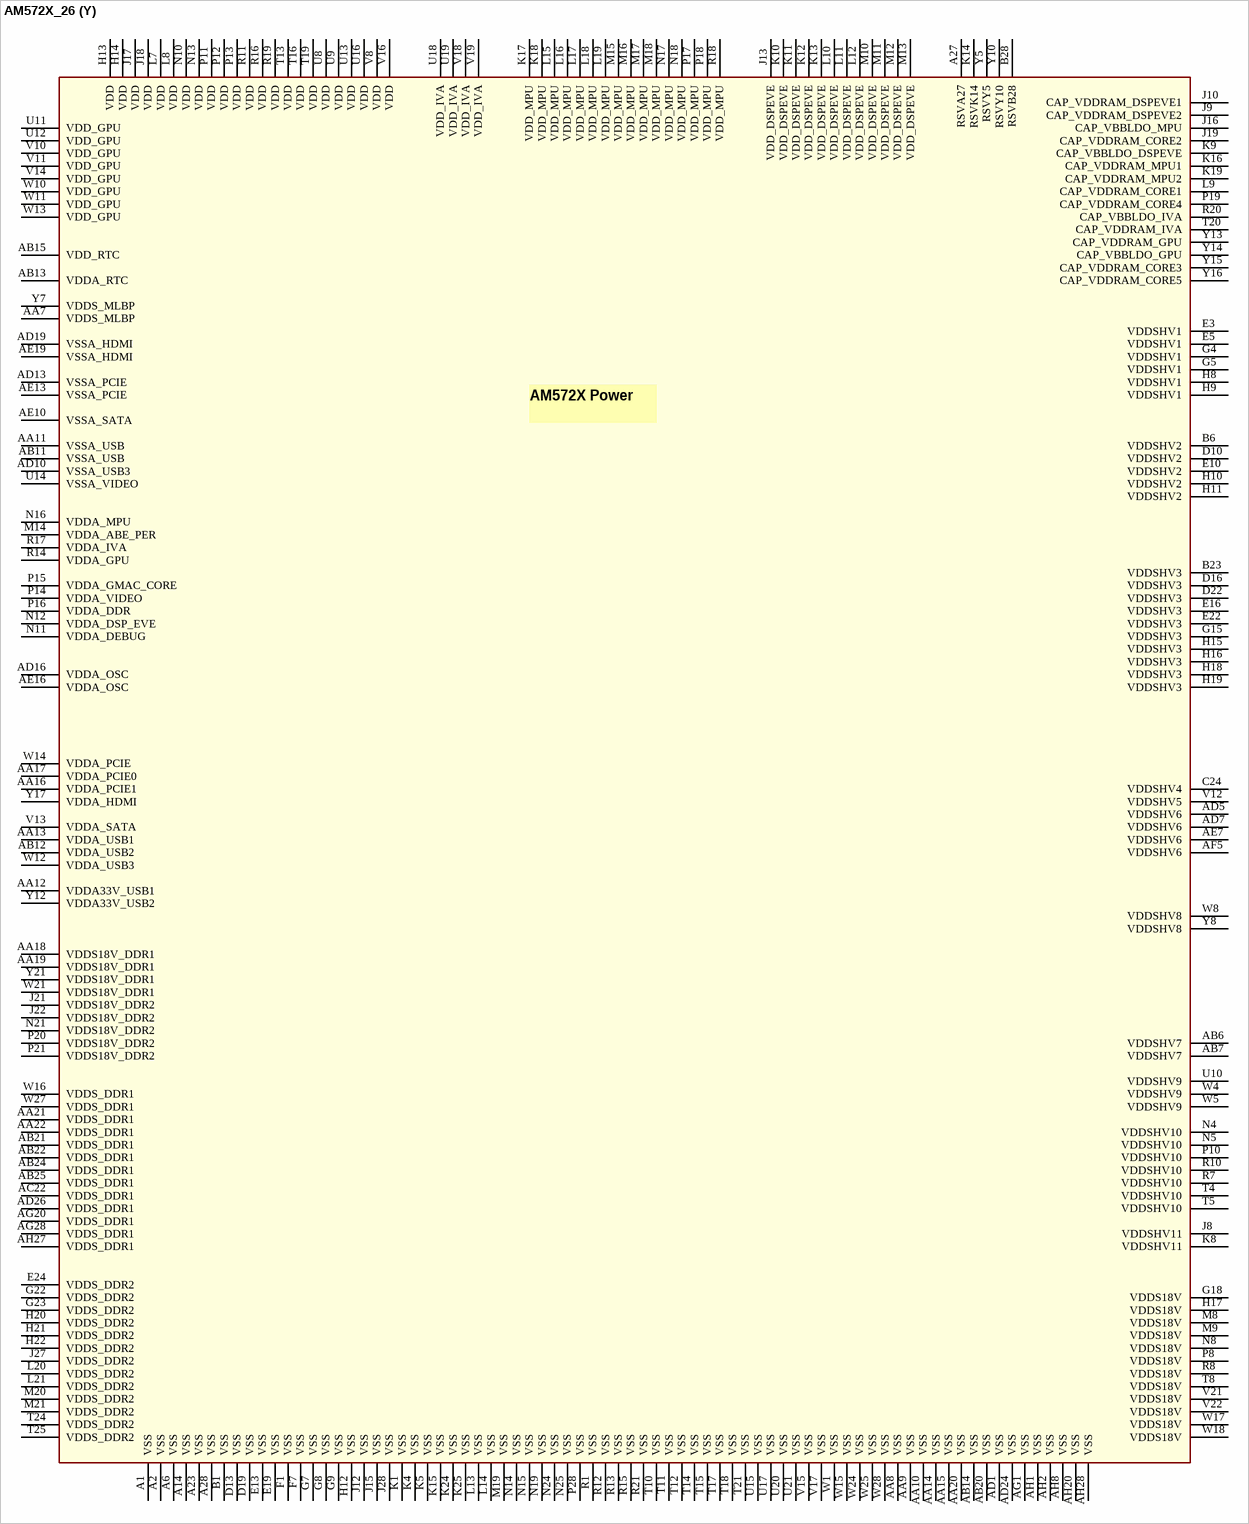
[diagram p110: symbol AM572X_26]

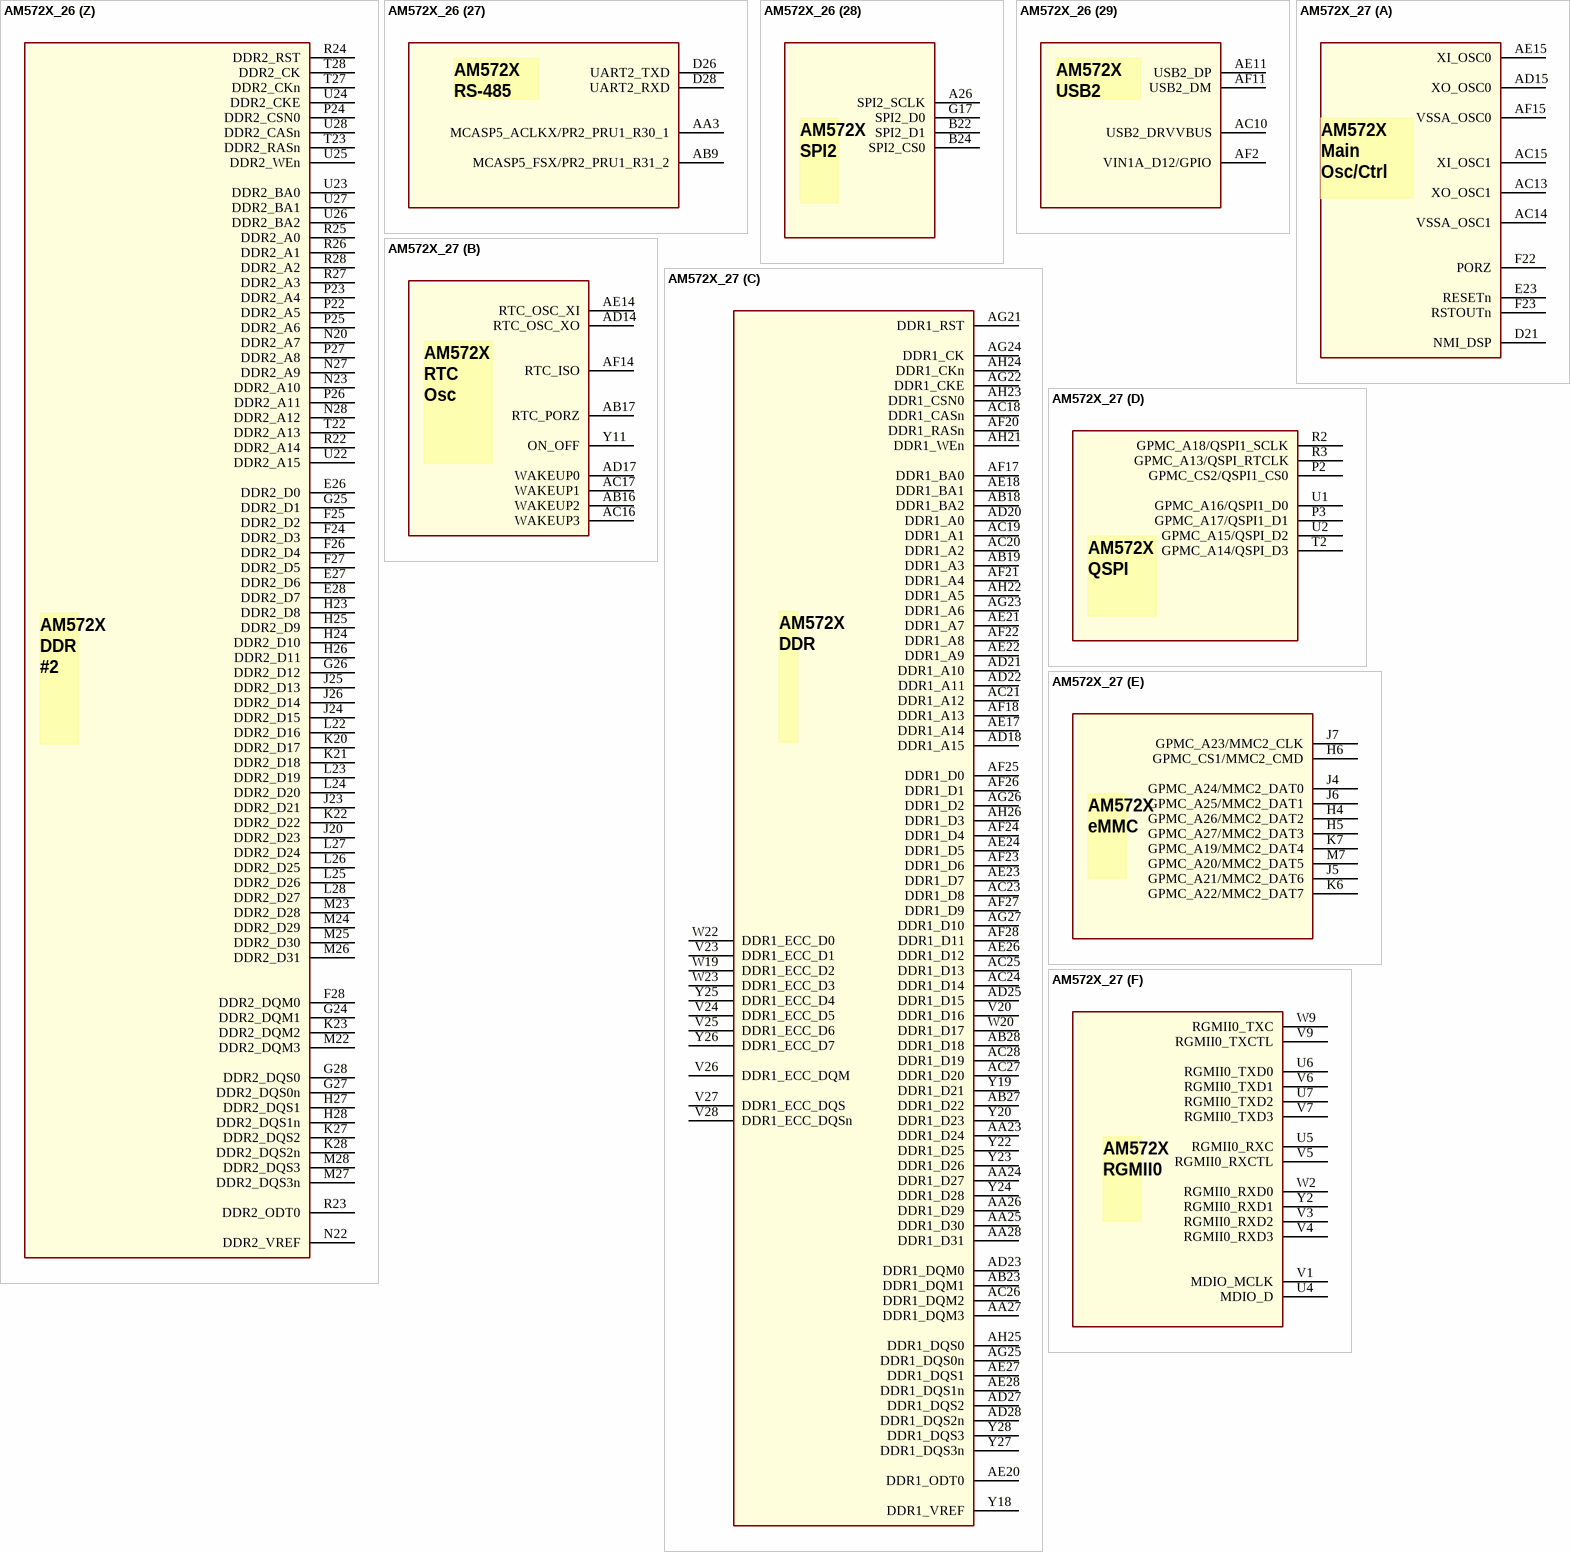
[diagram p111: symbols AM572X_26 to AM572X_27]